# Altium schematic symbol library fpga_xilinx.SchLib: 16 symbols (part 4 of 5)
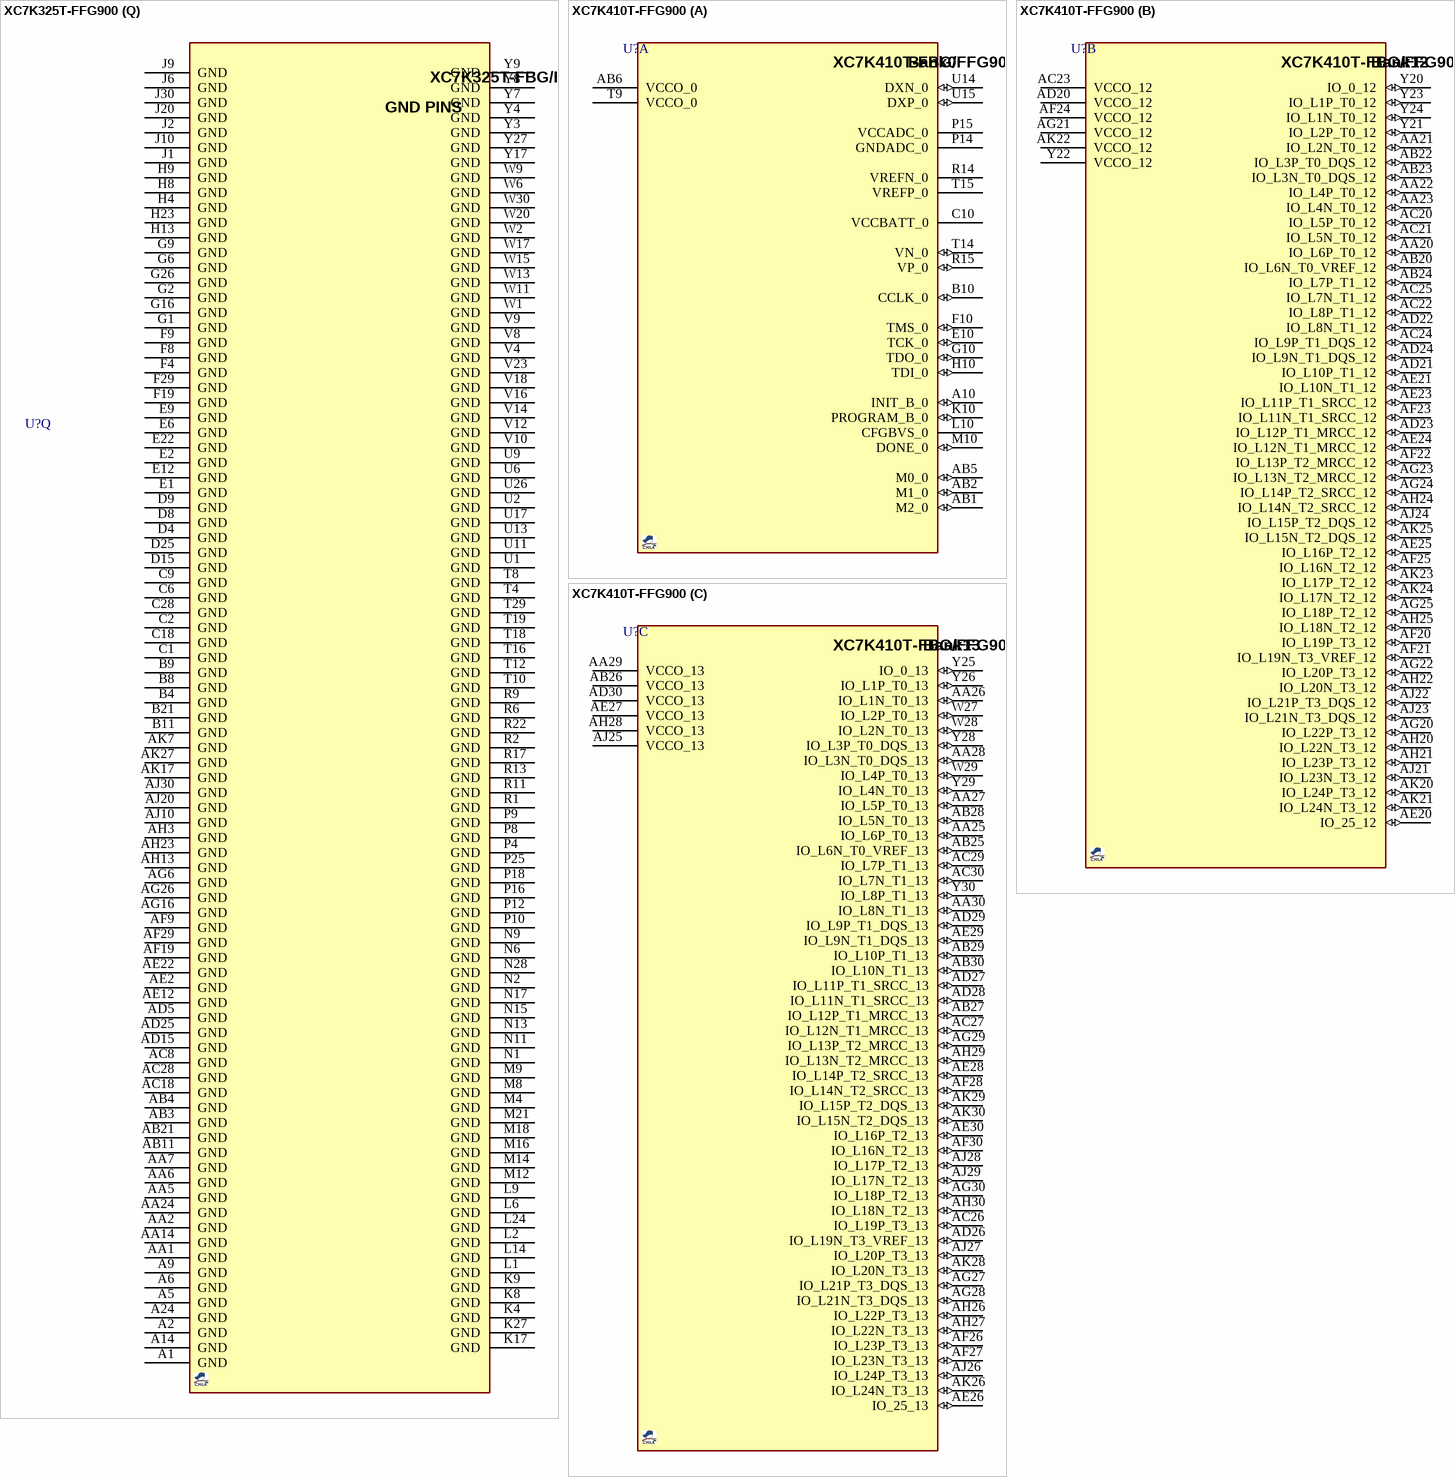
[diagram p37: symbols XC7K325T-FFG900 to XC7K410T-FFG900]

## XC7K325T-FFG900
designator U?  (value not drawn)
Xilinx FPGA 500 I/O, 325K logic cell,; DESC: -XC7K410T-2FFG900I; MANF_P#: XC7K325T-2FFG900I; ASSEMBLY: ASSEMBLY; MANF: XILINX; VALUE: XC7K325T-FFG900
footprint BGA100_900_S31 (BGA, 900-Leads, FFG900, FFG901, Body 31.0x31.0mm,  Pitch 1.00mm)
part A pins: A10 INIT_B_0 (io), AB1 M2_0 (io), AB2 M1_0 (io), AB5 M0_0 (io), AB6 VCCO_0 (power), B10 CCLK_0 (io), C10 VCCBATT_0, E10 TCK_0 (io), F10 TMS_0 (io), G10 TDO_0 (io), H10 TDI_0 (io), K10 PROGRAM_B_0 (io), L10 CFGBVS_0, M10 DONE_0 (io), P14 GNDADC_0, P15 VCCADC_0, R14 VREFN_0, R15 VP_0 (io), T9 VCCO_0 (power), T14 VN_0 (io), T15 VREFP_0, U14 DXN_0 (io), U15 DXP_0 (io)
part B pins: AA20 IO_L6P_T0_12 (io), AA21 IO_L2N_T0_12 (io), AA22 IO_L4P_T0_12 (io), AA23 IO_L4N_T0_12 (io), AB20 IO_L6N_T0_VREF_12 (io), AB22 IO_L3P_T0_DQS_12 (io), AB23 IO_L3N_T0_DQS_12 (io), AB24 IO_L7P_T1_12 (io), AC20 IO_L5P_T0_12 (io), AC21 IO_L5N_T0_12 (io), AC22 IO_L8P_T1_12 (io), AC23 VCCO_12 (power), AC24 IO_L9P_T1_DQS_12 (io), AC25 IO_L7N_T1_12 (io), AD20 VCCO_12 (power), AD21 IO_L10P_T1_12 (io), AD22 IO_L8N_T1_12 (io), AD23 IO_L12P_T1_MRCC_12 (io), AD24 IO_L9N_T1_DQS_12 (io), AE20 IO_25_12 (io), AE21 IO_L10N_T1_12 (io), AE23 IO_L11P_T1_SRCC_12 (io), AE24 IO_L12N_T1_MRCC_12 (io), AE25 IO_L16P_T2_12 (io), AF20 IO_L19P_T3_12 (io), AF21 IO_L19N_T3_VREF_12 (io), AF22 IO_L13P_T2_MRCC_12 (io), AF23 IO_L11N_T1_SRCC_12 (io), AF24 VCCO_12 (power), AF25 IO_L16N_T2_12 (io), AG20 IO_L22P_T3_12 (io), AG21 VCCO_12 (power), AG22 IO_L20P_T3_12 (io), AG23 IO_L13N_T2_MRCC_12 (io), AG24 IO_L14P_T2_SRCC_12 (io), AG25 IO_L18P_T2_12 (io), AH20 IO_L22N_T3_12 (io), AH21 IO_L23P_T3_12 (io), AH22 IO_L20N_T3_12 (io), AH24 IO_L14N_T2_SRCC_12 (io), AH25 IO_L18N_T2_12 (io), AJ21 IO_L23N_T3_12 (io), AJ22 IO_L21P_T3_DQS_12 (io), AJ23 IO_L21N_T3_DQS_12 (io), AJ24 IO_L15P_T2_DQS_12 (io), AK20 IO_L24P_T3_12 (io), AK21 IO_L24N_T3_12 (io), AK22 VCCO_12 (power), AK23 IO_L17P_T2_12 (io), AK24 IO_L17N_T2_12 (io), AK25 IO_L15N_T2_DQS_12 (io), Y20 IO_0_12 (io), Y21 IO_L2P_T0_12 (io), Y22 VCCO_12 (power), Y23 IO_L1P_T0_12 (io), Y24 IO_L1N_T0_12 (io)
part C pins: AA25 IO_L6P_T0_13 (io), AA26 IO_L1N_T0_13 (io), AA27 IO_L5P_T0_13 (io), AA28 IO_L3N_T0_DQS_13 (io), AA29 VCCO_13 (power), AA30 IO_L8N_T1_13 (io), AB25 IO_L6N_T0_VREF_13 (io), AB26 VCCO_13 (power), AB27 IO_L12P_T1_MRCC_13 (io), AB28 IO_L5N_T0_13 (io), AB29 IO_L10P_T1_13 (io), AB30 IO_L10N_T1_13 (io), AC26 IO_L19P_T3_13 (io), AC27 IO_L12N_T1_MRCC_13 (io), AC29 IO_L7P_T1_13 (io), AC30 IO_L7N_T1_13 (io), AD26 IO_L19N_T3_VREF_13 (io), AD27 IO_L11P_T1_SRCC_13 (io), AD28 IO_L11N_T1_SRCC_13 (io), AD29 IO_L9P_T1_DQS_13 (io), AD30 VCCO_13 (power), AE26 IO_25_13 (io), AE27 VCCO_13 (power), AE28 IO_L14P_T2_SRCC_13 (io), AE29 IO_L9N_T1_DQS_13 (io), AE30 IO_L16P_T2_13 (io), AF26 IO_L23P_T3_13 (io), AF27 IO_L23N_T3_13 (io), AF28 IO_L14N_T2_SRCC_13 (io), AF30 IO_L16N_T2_13 (io), AG27 IO_L21P_T3_DQS_13 (io), AG28 IO_L21N_T3_DQS_13 (io), AG29 IO_L13P_T2_MRCC_13 (io), AG30 IO_L18P_T2_13 (io), AH26 IO_L22P_T3_13 (io), AH27 IO_L22N_T3_13 (io), AH28 VCCO_13 (power), AH29 IO_L13N_T2_MRCC_13 (io), AH30 IO_L18N_T2_13 (io), AJ25 VCCO_13 (power), AJ26 IO_L24P_T3_13 (io), AJ27 IO_L20P_T3_13 (io), AJ28 IO_L17P_T2_13 (io), AJ29 IO_L17N_T2_13 (io), AK26 IO_L24N_T3_13 (io), AK28 IO_L20N_T3_13 (io), AK29 IO_L15P_T2_DQS_13 (io), AK30 IO_L15N_T2_DQS_13 (io), W27 IO_L2P_T0_13 (io), W28 IO_L2N_T0_13 (io), W29 IO_L4P_T0_13 (io), Y25 IO_0_13 (io), Y26 IO_L1P_T0_13 (io), Y28 IO_L3P_T0_DQS_13 (io), Y29 IO_L4N_T0_13 (io), Y30 IO_L8P_T1_13 (io)
part D pins: P24 IO_L1P_T0_D00_MOSI_14 (io), P26 IO_L10P_T1_D14_14 (io), P27 IO_L8P_T1_D11_14 (io), P28 IO_L8N_T1_D12_14 (io), P29 IO_L7P_T1_D09_14 (io), P30 VCCO_14 (power), R19 IO_0_14 (io), R20 IO_L2P_T0_D02_14 (io), R21 IO_L2N_T0_D03_14 (io), R23 IO_L3P_T0_DQS_PUDC_B_14 (io), R24 IO_L3N_T0_DQS_EMCCLK_14 (io), R25 IO_L1N_T0_D01_DIN_14 (io), R26 IO_L10N_T1_D15_14 (io), R27 VCCO_14 (power), R28 IO_L11P_T1_SRCC_14 (io), R29 IO_L7N_T1_D10_14 (io), R30 IO_L9P_T1_DQS_14 (io), T20 IO_L4P_T0_D04_14 (io), T21 IO_L4N_T0_D05_14 (io), T22 IO_L5P_T0_D06_14 (io), T23 IO_L5N_T0_D07_14 (io), T24 VCCO_14 (power), T25 IO_L14P_T2_SRCC_14 (io), T26 IO_L12P_T1_MRCC_14 (io), T27 IO_L12N_T1_MRCC_14 (io), T28 IO_L11N_T1_SRCC_14 (io), T30 IO_L9N_T1_DQS_D13_14 (io), U19 IO_L6P_T0_FCS_B_14 (io), U20 IO_L6N_T0_D08_VREF_14 (io), U21 VCCO_14 (power), U22 IO_L21P_T3_DQS_14 (io), U23 IO_L21N_T3_DQS_A06_D22_14 (io), U24 IO_L23P_T3_A03_D19_14 (io), U25 IO_L14N_T2_SRCC_14 (io), U27 IO_L13P_T2_MRCC_14 (io), U28 IO_L13N_T2_MRCC_14 (io), U29 IO_L15P_T2_DQS_RDWR_B_14 (io), U30 IO_L15N_T2_DQS_DOUT_CSO_B_14 (io), V19 IO_L19P_T3_A10_D26_14 (io), V20 IO_L19N_T3_A09_D25_VREF_14 (io), V21 IO_L22P_T3_A05_D21_14 (io), V22 IO_L22N_T3_A04_D20_14 (io), V24 IO_L23N_T3_A02_D18_14 (io), V25 IO_L18P_T2_A12_D28_14 (io), V26 IO_L16P_T2_CSI_B_14 (io), V27 IO_L16N_T2_A15_D31_14 (io), V28 VCCO_14 (power), V29 IO_L17P_T2_A14_D30_14 (io), V30 IO_L17N_T2_A13_D29_14 (io), W19 IO_25_14 (io), W21 IO_L24P_T3_A01_D17_14 (io), W22 IO_L24N_T3_A00_D16_14 (io), W23 IO_L20P_T3_A08_D24_14 (io), W24 IO_L20N_T3_A07_D23_14 (io), W25 VCCO_14 (power), W26 IO_L18N_T2_A11_D27_14 (io)
part E pins: H29 IO_L7N_T1_AD10N_15 (io), J21 IO_L5P_T0_AD2P_15 (io), J22 IO_L5N_T0_AD2N_15 (io), J23 IO_L1P_T0_AD0P_15 (io), J24 IO_L1N_T0_AD0N_15 (io), J25 VCCO_15 (power), J26 IO_L10N_T1_AD4N_15 (io), J27 IO_L8P_T1_AD3P_15 (io), J28 IO_L8N_T1_AD3N_15 (io), J29 IO_L7P_T1_AD10P_15 (io), K21 IO_L4N_T0_AD9N_15 (io), K22 VCCO_15 (power), K23 IO_L3P_T0_DQS_AD1P_15 (io), K24 IO_L3N_T0_DQS_AD1N_15 (io), K25 IO_L12N_T1_MRCC_AD5N_15 (io), K26 IO_L10P_T1_AD4P_15 (io), K28 IO_L13P_T2_MRCC_15 (io), K29 IO_L13N_T2_MRCC_15 (io), K30 IO_L9N_T1_DQS_AD11N_15 (io), L20 IO_L6N_T0_VREF_15 (io), L21 IO_L4P_T0_AD9P_15 (io), L22 IO_L2P_T0_AD8P_15 (io), L23 IO_L2N_T0_AD8N_15 (io), L25 IO_L12P_T1_MRCC_AD5P_15 (io), L26 IO_L11P_T1_SRCC_AD12P_15 (io), L27 IO_L11N_T1_SRCC_AD12N_15 (io), L28 IO_L14N_T2_SRCC_15 (io), L29 VCCO_15 (power), L30 IO_L9P_T1_DQS_AD11P_15 (io), M19 IO_0_15 (io), M20 IO_L6P_T0_15 (io), M22 IO_L24P_T3_RS1_15 (io), M23 IO_L24N_T3_RS0_15 (io), M24 IO_L23P_T3_FOE_B_15 (io), M25 IO_L23N_T3_FWE_B_15 (io), M26 VCCO_15 (power), M27 IO_L16N_T2_A27_15 (io), M28 IO_L14P_T2_SRCC_15 (io), M29 IO_L15P_T2_DQS_15 (io), M30 IO_L15N_T2_DQS_ADV_B_15 (io), N19 IO_L19P_T3_A22_15 (io), N20 IO_L19N_T3_A21_VREF_15 (io), N21 IO_L20P_T3_A20_15 (io), N22 IO_L20N_T3_A19_15 (io), N23 VCCO_15 (power), N24 IO_L21N_T3_DQS_A18_15 (io), N25 IO_L18P_T2_A24_15 (io), N26 IO_L18N_T2_A23_15 (io), N27 IO_L16P_T2_A28_15 (io), N29 IO_L17P_T2_A26_15 (io), N30 IO_L17N_T2_A25_15 (io), P19 IO_25_15 (io), P20 VCCO_15 (power), P21 IO_L22P_T3_A17_15 (io), P22 IO_L22N_T3_A16_15 (io), P23 IO_L21P_T3_DQS_15 (io)
part F pins: A23 IO_L1N_T0_16 (io), A25 IO_L10P_T1_16 (io), A26 IO_L10N_T1_16 (io), A27 IO_L7N_T1_16 (io), A28 IO_L9N_T1_DQS_16 (io), A29 VCCO_16 (power), A30 IO_L17N_T2_16 (io), B23 IO_L1P_T0_16 (io), B24 IO_L8N_T1_16 (io), B25 IO_L12N_T1_MRCC_16 (io), B26 VCCO_16 (power), B27 IO_L7P_T1_16 (io), B28 IO_L9P_T1_DQS_16 (io), B29 IO_L15N_T2_DQS_16 (io), B30 IO_L17P_T2_16 (io), C23 VCCO_16 (power), C24 IO_L8P_T1_16 (io), C25 IO_L12P_T1_MRCC_16 (io), C26 IO_L11N_T1_SRCC_16 (io), C27 IO_L13N_T2_MRCC_16 (io), C29 IO_L15P_T2_DQS_16 (io), C30 IO_L16N_T2_16 (io), D23 IO_L2N_T0_16 (io), D24 IO_L4N_T0_16 (io), D26 IO_L11P_T1_SRCC_16 (io), D27 IO_L13P_T2_MRCC_16 (io), D28 IO_L14N_T2_SRCC_16 (io), D29 IO_L16P_T2_16 (io), D30 VCCO_16 (power), E23 IO_L2P_T0_16 (io), E24 IO_L4P_T0_16 (io), E25 IO_L3N_T0_DQS_16 (io), E26 IO_L5N_T0_16 (io), E27 VCCO_16 (power), E28 IO_L14P_T2_SRCC_16 (io), E29 IO_L18P_T2_16 (io), E30 IO_L18N_T2_16 (io), F23 IO_0_16 (io), F24 VCCO_16 (power), F25 IO_L3P_T0_DQS_16 (io), F26 IO_L5P_T0_16 (io), F27 IO_L21N_T3_DQS_16 (io), F28 IO_L20N_T3_16 (io), F30 IO_L22N_T3_16 (io), G23 IO_L6P_T0_16 (io), G24 IO_L6N_T0_VREF_16 (io), G25 IO_25_16 (io), G27 IO_L21P_T3_DQS_16 (io), G28 IO_L20P_T3_16 (io), G29 IO_L22P_T3_16 (io), G30 IO_L24N_T3_16 (io), H24 IO_L19P_T3_16 (io), H25 IO_L19N_T3_VREF_16 (io), H26 IO_L23P_T3_16 (io), H27 IO_L23N_T3_16 (io), H28 VCCO_16 (power), H30 IO_L24P_T3_16 (io)
part G pins: A16 IO_L20P_T3_17 (io), A17 IO_L20N_T3_17 (io), A18 IO_L22N_T3_17 (io), A19 VCCO_17 (power), A20 IO_L21P_T3_DQS_17 (io), A21 IO_L21N_T3_DQS_17 (io), A22 IO_L23N_T3_17 (io), B16 VCCO_17 (power), B17 IO_L17N_T2_17 (io), B18 IO_L22P_T3_17 (io), B19 IO_L24N_T3_17 (io), B20 IO_L19N_T3_VREF_17 (io), B22 IO_L23P_T3_17 (io), C16 IO_L15N_T2_DQS_17 (io), C17 IO_L17P_T2_17 (io), C19 IO_L24P_T3_17 (io), C20 IO_L19P_T3_17 (io), C21 IO_L8N_T1_17 (io), C22 IO_L10N_T1_17 (io), D16 IO_L15P_T2_DQS_17 (io), D17 IO_L13P_T2_MRCC_17 (io), D18 IO_L13N_T2_MRCC_17 (io), D19 IO_L14N_T2_SRCC_17 (io), D20 VCCO_17 (power), D21 IO_L8P_T1_17 (io), D22 IO_L10P_T1_17 (io), E17 VCCO_17 (power), E18 IO_25_17 (io), E19 IO_L14P_T2_SRCC_17 (io), E20 IO_L12N_T1_MRCC_17 (io), E21 IO_L11N_T1_SRCC_17 (io), F17 IO_L18N_T2_17 (io), F18 IO_L16N_T2_17 (io), F20 IO_L12P_T1_MRCC_17 (io), F21 IO_L11P_T1_SRCC_17 (io), F22 IO_L9N_T1_DQS_17 (io), G17 IO_L18P_T2_17 (io), G18 IO_L16P_T2_17 (io), G19 IO_0_17 (io), G20 IO_L2N_T0_17 (io), G21 VCCO_17 (power), G22 IO_L9P_T1_DQS_17 (io), H17 IO_L3N_T0_DQS_17 (io), H18 VCCO_17 (power), H19 IO_L4N_T0_17 (io), H20 IO_L2P_T0_17 (io), H21 IO_L7P_T1_17 (io), H22 IO_L7N_T1_17 (io), J17 IO_L3P_T0_DQS_17 (io), J18 IO_L1N_T0_17 (io), J19 IO_L4P_T0_17 (io), K18 IO_L1P_T0_17 (io), K19 IO_L6P_T0_17 (io), K20 IO_L6N_T0_VREF_17 (io), L17 IO_L5P_T0_17 (io), L18 IO_L5N_T0_17 (io), L19 VCCO_17 (power)
part H pins: A11 IO_L17P_T2_18 (io), A12 IO_L17N_T2_18 (io), A13 IO_L22N_T3_18 (io), A15 IO_L24N_T3_18 (io), B12 IO_L15N_T2_DQS_18 (io), B13 IO_L22P_T3_18 (io), B14 IO_L24P_T3_18 (io), B15 IO_L23N_T3_18 (io), C11 IO_L18N_T2_18 (io), C12 IO_L15P_T2_DQS_18 (io), C13 VCCO_18 (power), C14 IO_L21N_T3_DQS_18 (io), C15 IO_L23P_T3_18 (io), D10 VCCO_18 (power), D11 IO_L18P_T2_18 (io), D12 IO_L13P_T2_MRCC_18 (io), D13 IO_L13N_T2_MRCC_18 (io), D14 IO_L21P_T3_DQS_18 (io), E11 IO_L16N_T2_18 (io), E13 IO_L14N_T2_SRCC_18 (io), E14 IO_L20P_T3_18 (io), E15 IO_L20N_T3_18 (io), E16 IO_L19N_T3_VREF_18 (io), F11 IO_L16P_T2_18 (io), F12 IO_L14P_T2_SRCC_18 (io), F13 IO_L12N_T1_MRCC_18 (io), F14 VCCO_18 (power), F15 IO_L19P_T3_18 (io), F16 IO_25_18 (io), G11 VCCO_18 (power), G12 IO_0_18 (io), G13 IO_L12P_T1_MRCC_18 (io), G14 IO_L11N_T1_SRCC_18 (io), G15 IO_L7N_T1_18 (io), H11 IO_L10P_T1_18 (io), H12 IO_L10N_T1_18 (io), H14 IO_L11P_T1_SRCC_18 (io), H15 IO_L7P_T1_18 (io), H16 IO_L9N_T1_DQS_18 (io), J11 IO_L8P_T1_18 (io), J12 IO_L8N_T1_18 (io), J13 IO_L4N_T0_18 (io), J14 IO_L5N_T0_18 (io), J15 VCCO_18 (power), J16 IO_L9P_T1_DQS_18 (io), K11 IO_L6N_T0_VREF_18 (io), K12 VCCO_18 (power), K13 IO_L4P_T0_18 (io), K14 IO_L5P_T0_18 (io), K15 IO_L2N_T0_18 (io), K16 IO_L1N_T0_18 (io), L11 IO_L6P_T0_18 (io), L12 IO_L3P_T0_DQS_18 (io), L13 IO_L3N_T0_DQS_18 (io), L15 IO_L2P_T0_18 (io), L16 IO_L1P_T0_18 (io)
part I pins: AA15 IO_L20P_T3_32 (io), AA16 IO_L23N_T3_32 (io), AA17 IO_L23P_T3_32 (io), AA18 IO_L16P_T2_32 (io), AA19 VCCO_32 (power), AB14 IO_25_VRP_32 (io), AB15 IO_L20N_T3_32 (io), AB16 VCCO_32 (power), AB17 IO_L18P_T2_32 (io), AB18 IO_L16N_T2_32 (io), AB19 IO_L17P_T2_32 (io), AC14 IO_L22P_T3_32 (io), AC15 IO_L21N_T3_DQS_32 (io), AC16 IO_L21P_T3_DQS_32 (io), AC17 IO_L18N_T2_32 (io), AC19 IO_L17N_T2_32 (io), AD14 IO_L22N_T3_32 (io), AD16 IO_L14N_T2_SRCC_32 (io), AD17 IO_L14P_T2_SRCC_32 (io), AD18 IO_L13P_T2_MRCC_32 (io), AD19 IO_L10P_T1_32 (io), AE14 IO_L19N_T3_VREF_32 (io), AE15 IO_L19P_T3_32 (io), AE16 IO_L6P_T0_32 (io), AE17 VCCO_32 (power), AE18 IO_L13N_T2_MRCC_32 (io), AE19 IO_L10N_T1_32 (io), AF14 VCCO_32 (power), AF15 IO_L4P_T0_32 (io), AF16 IO_L6N_T0_VREF_32 (io), AF17 IO_L12P_T1_MRCC_32 (io), AF18 IO_L11P_T1_SRCC_32 (io), AG14 IO_L4N_T0_32 (io), AG15 IO_L2P_T0_32 (io), AG17 IO_L12N_T1_MRCC_32 (io), AG18 IO_L11N_T1_SRCC_32 (io), AG19 IO_L8P_T1_32 (io), AH15 IO_L2N_T0_32 (io), AH16 IO_L3P_T0_DQS_32 (io), AH17 IO_L5P_T0_32 (io), AH18 VCCO_32 (power), AH19 IO_L8N_T1_32 (io), AJ15 VCCO_32 (power), AJ16 IO_L3N_T0_DQS_32 (io), AJ17 IO_L5N_T0_32 (io), AJ18 IO_L9P_T1_DQS_32 (io), AJ19 IO_L7P_T1_32 (io), AK15 IO_L1N_T0_32 (io), AK16 IO_L1P_T0_32 (io), AK18 IO_L9N_T1_DQS_32 (io), AK19 IO_L7N_T1_32 (io), Y14 IO_0_VRN_32 (io), Y15 IO_L24N_T3_32 (io), Y16 IO_L24P_T3_32 (io), Y18 IO_L15N_T2_DQS_32 (io), Y19 IO_L15P_T2_DQS_32 (io)
part J pins: AA8 IO_L2P_T0_33 (io), AA9 VCCO_33 (power), AA10 IO_L5N_T0_33 (io), AA11 IO_L5P_T0_33 (io), AA12 IO_L1P_T0_33 (io), AA13 IO_L6P_T0_33 (io), AB8 IO_L2N_T0_33 (io), AB9 IO_L3P_T0_DQS_33 (io), AB10 IO_L7P_T1_33 (io), AB12 IO_L1N_T0_33 (io), AB13 IO_L6N_T0_VREF_33 (io), AC9 IO_L3N_T0_DQS_33 (io), AC10 IO_L7N_T1_33 (io), AC11 IO_L9N_T1_DQS_33 (io), AC12 IO_L9P_T1_DQS_33 (io), AC13 VCCO_33 (power), AD8 IO_L8P_T1_33 (io), AD9 IO_L10P_T1_33 (io), AD10 VCCO_33 (power), AD11 IO_L12N_T1_MRCC_33 (io), AD12 IO_L12P_T1_MRCC_33 (io), AD13 IO_25_VRP_33 (io), AE8 IO_L8N_T1_33 (io), AE9 IO_L10N_T1_33 (io), AE10 IO_L14P_T2_SRCC_33 (io), AE11 IO_L11P_T1_SRCC_33 (io), AE13 IO_L19P_T3_33 (io), AF10 IO_L14N_T2_SRCC_33 (io), AF11 IO_L11N_T1_SRCC_33 (io), AF12 IO_L23P_T3_33 (io), AF13 IO_L19N_T3_VREF_33 (io), AG9 IO_L16P_T2_33 (io), AG10 IO_L13P_T2_MRCC_33 (io), AG11 VCCO_33 (power), AG12 IO_L23N_T3_33 (io), AG13 IO_L24P_T3_33 (io), AH9 IO_L16N_T2_33 (io), AH10 IO_L13N_T2_MRCC_33 (io), AH11 IO_L18P_T2_33 (io), AH12 IO_L24N_T3_33 (io), AH14 IO_L21P_T3_DQS_33 (io), AJ9 IO_L15P_T2_DQS_33 (io), AJ11 IO_L18N_T2_33 (io), AJ12 IO_L22N_T3_33 (io), AJ13 IO_L22P_T3_33 (io), AJ14 IO_L21N_T3_DQS_33 (io), AK9 IO_L15N_T2_DQS_33 (io), AK10 IO_L17N_T2_33 (io), AK11 IO_L17P_T2_33 (io), AK12 VCCO_33 (power), AK13 IO_L20N_T3_33 (io), AK14 IO_L20P_T3_33 (io), Y10 IO_L4N_T0_33 (io), Y11 IO_L4P_T0_33 (io), Y12 VCCO_33 (power), Y13 IO_0_VRN_33 (io)
part K pins: AB7 IO_25_VRP_34 (io), AC1 IO_L2N_T0_34 (io), AC2 IO_L2P_T0_34 (io), AC3 VCCO_34 (power), AC4 IO_L4N_T0_34 (io), AC5 IO_L4P_T0_34 (io), AC6 IO_0_VRN_34 (io), AC7 IO_L6P_T0_34 (io), AD1 IO_L3N_T0_DQS_34 (io), AD2 IO_L3P_T0_DQS_34 (io), AD3 IO_L1N_T0_34 (io), AD4 IO_L1P_T0_34 (io), AD6 IO_L5P_T0_34 (io), AD7 IO_L6N_T0_VREF_34 (io), AE1 IO_L8P_T1_34 (io), AE3 IO_L10N_T1_34 (io), AE4 IO_L10P_T1_34 (io), AE5 IO_L11P_T1_SRCC_34 (io), AE6 IO_L5N_T0_34 (io), AE7 VCCO_34 (power), AF1 IO_L8N_T1_34 (io), AF2 IO_L7N_T1_34 (io), AF3 IO_L7P_T1_34 (io), AF4 VCCO_34 (power), AF5 IO_L11N_T1_SRCC_34 (io), AF6 IO_L12P_T1_MRCC_34 (io), AF7 IO_L20P_T3_34 (io), AF8 IO_L19P_T3_34 (io), AG1 VCCO_34 (power), AG2 IO_L15P_T2_DQS_34 (io), AG3 IO_L9N_T1_DQS_34 (io), AG4 IO_L9P_T1_DQS_34 (io), AG5 IO_L12N_T1_MRCC_34 (io), AG7 IO_L20N_T3_34 (io), AG8 IO_L19N_T3_VREF_34 (io), AH1 IO_L15N_T2_DQS_34 (io), AH2 IO_L16P_T2_34 (io), AH4 IO_L13P_T2_MRCC_34 (io), AH5 IO_L14N_T2_SRCC_34 (io), AH6 IO_L14P_T2_SRCC_34 (io), AH7 IO_L21P_T3_DQS_34 (io), AH8 VCCO_34 (power), AJ1 IO_L17P_T2_34 (io), AJ2 IO_L16N_T2_34 (io), AJ3 IO_L18P_T2_34 (io), AJ4 IO_L13N_T2_MRCC_34 (io), AJ5 VCCO_34 (power), AJ6 IO_L22P_T3_34 (io), AJ7 IO_L21N_T3_DQS_34 (io), AJ8 IO_L23P_T3_34 (io), AK1 IO_L17N_T2_34 (io), AK2 VCCO_34 (power), AK3 IO_L18N_T2_34 (io), AK4 IO_L24N_T3_34 (io), AK5 IO_L24P_T3_34 (io), AK6 IO_L22N_T3_34 (io), AK8 IO_L23N_T3_34 (io)
part L pins: AA3 MGTXRXN0_115 (io), AA4 MGTXRXP0_115 (io), R7 MGTREFCLK0N_115 (io), R8 MGTREFCLK0P_115 (io), T1 MGTXTXN3_115 (io), T2 MGTXTXP3_115 (io), U3 MGTXTXN2_115 (io), U4 MGTXTXP2_115 (io), U7 MGTREFCLK1N_115 (io), U8 MGTREFCLK1P_115 (io), V1 MGTXTXN1_115 (io), V2 MGTXTXP1_115 (io), V5 MGTXRXN3_115 (io), V6 MGTXRXP3_115 (io), W3 MGTXRXN2_115 (io), W4 MGTXRXP2_115 (io), W7 MGTAVTTRCAL_115, W8 MGTRREF_115, Y1 MGTXTXN0_115 (io), Y2 MGTXTXP0_115 (io), Y5 MGTXRXN1_115 (io), Y6 MGTXRXP1_115 (io)
part M pins: L3 MGTXTXN3_116 (io), L4 MGTXTXP3_116 (io), L7 MGTREFCLK0N_116 (io), L8 MGTREFCLK0P_116 (io), M1 MGTXTXN2_116 (io), M2 MGTXTXP2_116 (io), M5 MGTXRXN3_116 (io), M6 MGTXRXP3_116 (io), N3 MGTXTXN1_116 (io), N4 MGTXTXP1_116 (io), N7 MGTREFCLK1N_116 (io), N8 MGTREFCLK1P_116 (io), P1 MGTXTXN0_116 (io), P2 MGTXTXP0_116 (io), P5 MGTXRXN2_116 (io), P6 MGTXRXP2_116 (io), R3 MGTXRXN1_116 (io), R4 MGTXRXP1_116 (io), T5 MGTXRXN0_116 (io), T6 MGTXRXP0_116 (io)
part N pins: F1 MGTXTXN3_117 (io), F2 MGTXTXP3_117 (io), F5 MGTXRXN3_117 (io), F6 MGTXRXP3_117 (io), G3 MGTXRXN2_117 (io), G4 MGTXRXP2_117 (io), G7 MGTREFCLK0N_117 (io), G8 MGTREFCLK0P_117 (io), H1 MGTXTXN2_117 (io), H2 MGTXTXP2_117 (io), H5 MGTXRXN1_117 (io), H6 MGTXRXP1_117 (io), J3 MGTXTXN1_117 (io), J4 MGTXTXP1_117 (io), J7 MGTREFCLK1N_117 (io), J8 MGTREFCLK1P_117 (io), K1 MGTXTXN0_117 (io), K2 MGTXTXP0_117 (io), K5 MGTXRXN0_117 (io), K6 MGTXRXP0_117 (io)
part O pins: A3 MGTXTXN3_118 (io), A4 MGTXTXP3_118 (io), A7 MGTXRXN3_118 (io), A8 MGTXRXP3_118 (io), B1 MGTXTXN2_118 (io), B2 MGTXTXP2_118 (io), B5 MGTXRXN2_118 (io), B6 MGTXRXP2_118 (io), C3 MGTXTXN1_118 (io), C4 MGTXTXP1_118 (io), C7 MGTREFCLK0N_118 (io), C8 MGTREFCLK0P_118 (io), D1 MGTXTXN0_118 (io), D2 MGTXTXP0_118 (io), D5 MGTXRXN1_118 (io), D6 MGTXRXP1_118 (io), E3 MGTXRXN0_118 (io), E4 MGTXRXP0_118 (io), E7 MGTREFCLK1N_118 (io), E8 MGTREFCLK1P_118 (io)
part P pins: B3 MGTAVTT_B3, B7 MGTAVCC_B7, C5 MGTAVTT_C5, D3 MGTAVTT_D3, D7 MGTAVCC_D7, E5 MGTAVTT_E5, F3 MGTAVTT_F3, F7 MGTAVCC_F7, G5 MGTAVTT_G5, H3 MGTAVTT_H3, H7 MGTAVCC_H7, J5 MGTAVTT_J5, K3 MGTAVTT_K3, K7 MGTAVCC_K7, L5 MGTAVTT_L5, M3 MGTAVTT_M3, M7 MGTAVCC_M7, M11 VCCINT_M11, M13 VCCINT_M13, M15 VCCINT_M15, M17 VCCINT_M17, N5 MGTAVTT_N5, N10 VCCINT_N10, N12 VCCINT_N12, N14 VCCINT_N14, N16 VCCBRAM_N16, N18 VCCINT_N18, P3 MGTAVTT_P3, P7 MGTAVCC_P7, P11 VCCINT_P11, P13 VCCAUX_P13, P17 VCCINT_P17, R5 MGTAVTT_R5, R10 VCCINT_R10, R12 VCCINT_R12, R16 VCCBRAM_R16, R18 VCCINT_R18, T3 MGTAVTT_T3, T7 MGTVCCAUX_T7, T11 VCCINT_T11, T13 VCCAUX_T13, T17 VCCINT_T17, U5 MGTAVTT_U5, U10 VCCINT_U10, U12 VCCINT_U12, U16 VCCBRAM_U16, U18 VCCINT_U18, V3 MGTAVTT_V3, V7 MGTVCCAUX_V7, V11 VCCAUX_IO_G0_V11, V13 VCCAUX_V13, V15 VCCAUX_V15, V17 VCCINT_V17, W5 MGTAVTT_W5, W10 VCCAUX_IO_G0_W10, W12 VCCAUX_IO_G0_W12, W14 VCCAUX_W14, W16 VCCBRAM_W16, W18 VCCINT_W18
part Q pins: A1 GND, A2 GND, A5 GND, A6 GND, A9 GND, A14 GND, A24 GND, AA1 GND, AA2 GND, AA5 GND, AA6 GND, AA7 GND, AA14 GND, AA24 GND, AB3 GND, AB4 GND, AB11 GND, AB21 GND, AC8 GND, AC18 GND, AC28 GND, AD5 GND, AD15 GND, AD25 GND, AE2 GND, AE12 GND, AE22 GND, AF9 GND, AF19 GND, AF29 GND, AG6 GND, AG16 GND, AG26 GND, AH3 GND, AH13 GND, AH23 GND, AJ10 GND, AJ20 GND, AJ30 GND, AK7 GND, AK17 GND, AK27 GND, B4 GND, B8 GND, B9 GND, B11 GND, B21 GND, C1 GND, C2 GND, C6 GND, C9 GND, C18 GND, C28 GND, D4 GND, D8 GND, D9 GND, D15 GND, D25 GND, E1 GND, E2 GND, E6 GND, E9 GND, E12 GND, E22 GND, F4 GND, F8 GND, F9 GND, F19 GND, F29 GND, G1 GND, G2 GND, G6 GND, G9 GND, G16 GND, G26 GND, H4 GND, H8 GND, H9 GND, H13 GND, H23 GND, J1 GND, J2 GND, J6 GND, J9 GND, J10 GND, J20 GND, J30 GND, K4 GND, K8 GND, K9 GND, K17 GND, K27 GND, L1 GND, L2 GND, L6 GND, L9 GND, L14 GND, L24 GND, M4 GND, M8 GND, M9 GND, M12 GND, M14 GND, M16 GND, M18 GND, M21 GND, N1 GND, N2 GND, N6 GND, N9 GND, N11 GND, N13 GND, N15 GND, N17 GND, N28 GND, P4 GND, P8 GND, P9 GND, P10 GND, P12 GND, P16 GND, P18 GND, P25 GND, R1 GND, R2 GND, R6 GND, R9 GND, R11 GND, R13 GND, R17 GND, R22 GND, T4 GND, T8 GND, T10 GND, T12 GND, T16 GND, T18 GND, T19 GND, T29 GND, U1 GND, U2 GND, U6 GND, U9 GND, U11 GND, U13 GND, U17 GND, U26 GND, V4 GND, V8 GND, V9 GND, V10 GND, V12 GND, V14 GND, V16 GND, V18 GND, V23 GND, W1 GND, W2 GND, W6 GND, W9 GND, W11 GND, W13 GND, W15 GND, W17 GND, W20 GND, W30 GND, Y3 GND, Y4 GND, Y7 GND, Y8 GND, Y9 GND, Y17 GND, Y27 GND
part A text: XC7K325T-FBG/FFG900; Bank0
part B text: XC7K325T-FBG/FFG900; Bank12
part C text: XC7K325T-FBG/FFG900; Bank13
part D text: XC7K325T-FBG/FFG900; Bank14
part E text: XC7K325T-FBG/FFG900; Bank15
part F text: XC7K325T-FBG/FFG900; Bank16
part G text: XC7K325T-FBG/FFG900; Bank17
part H text: XC7K325T-FBG/FFG900; Bank18
part I text: XC7K325T-FBG/FFG900; Bank32; HP
part J text: XC7K325T_NFBG/FFG900; Bank33; HP
part K text: XC7K325T-FBG/FFG900; Bank34; HP
part L text: XC7K325T-FBG/FFG900; Bank115
part M text: XC7K325T-FBG/FFG900; Bank116
part N text: XC7K325T-FBG/FFG900; Bank117
part O text: XC7K325T-FBG/FFG900; Bank118
part P text: XC7K325T-FBG/FFG900; PWR
part Q text: XC7K325T-FBG/FFG900; GND PINS

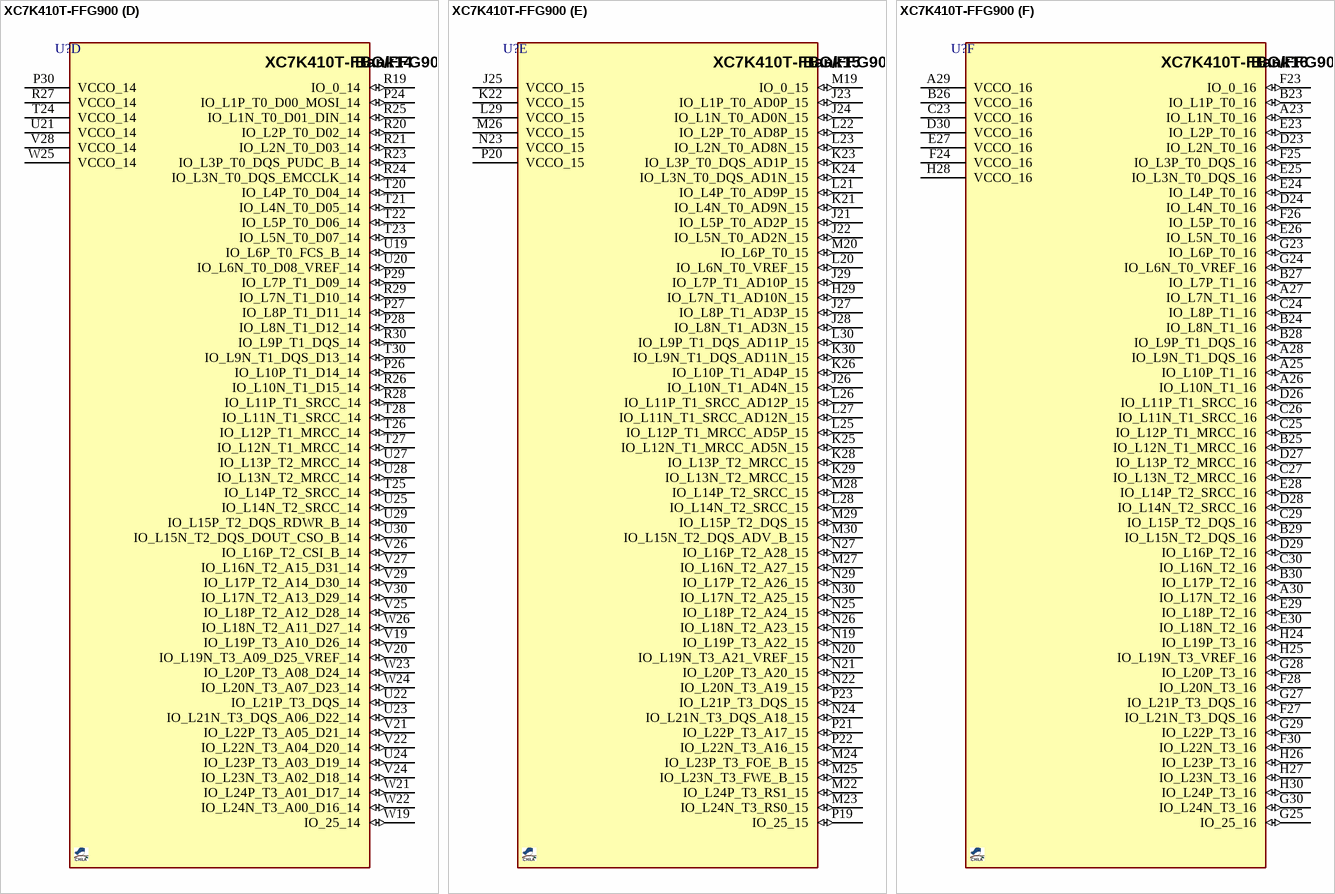
[diagram p27: symbol XC7K410T-FFG900]

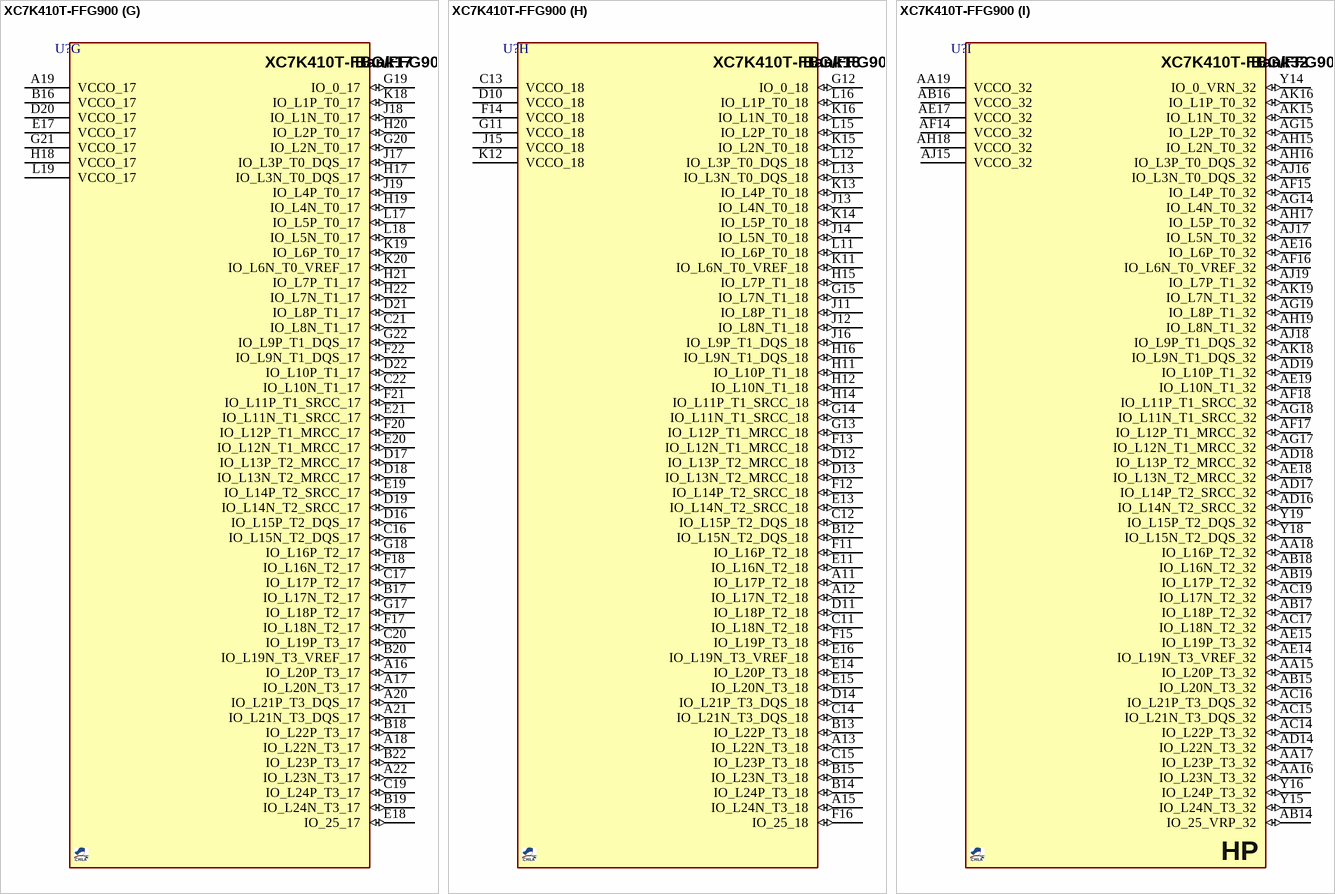
[diagram p28: symbol XC7K410T-FFG900]

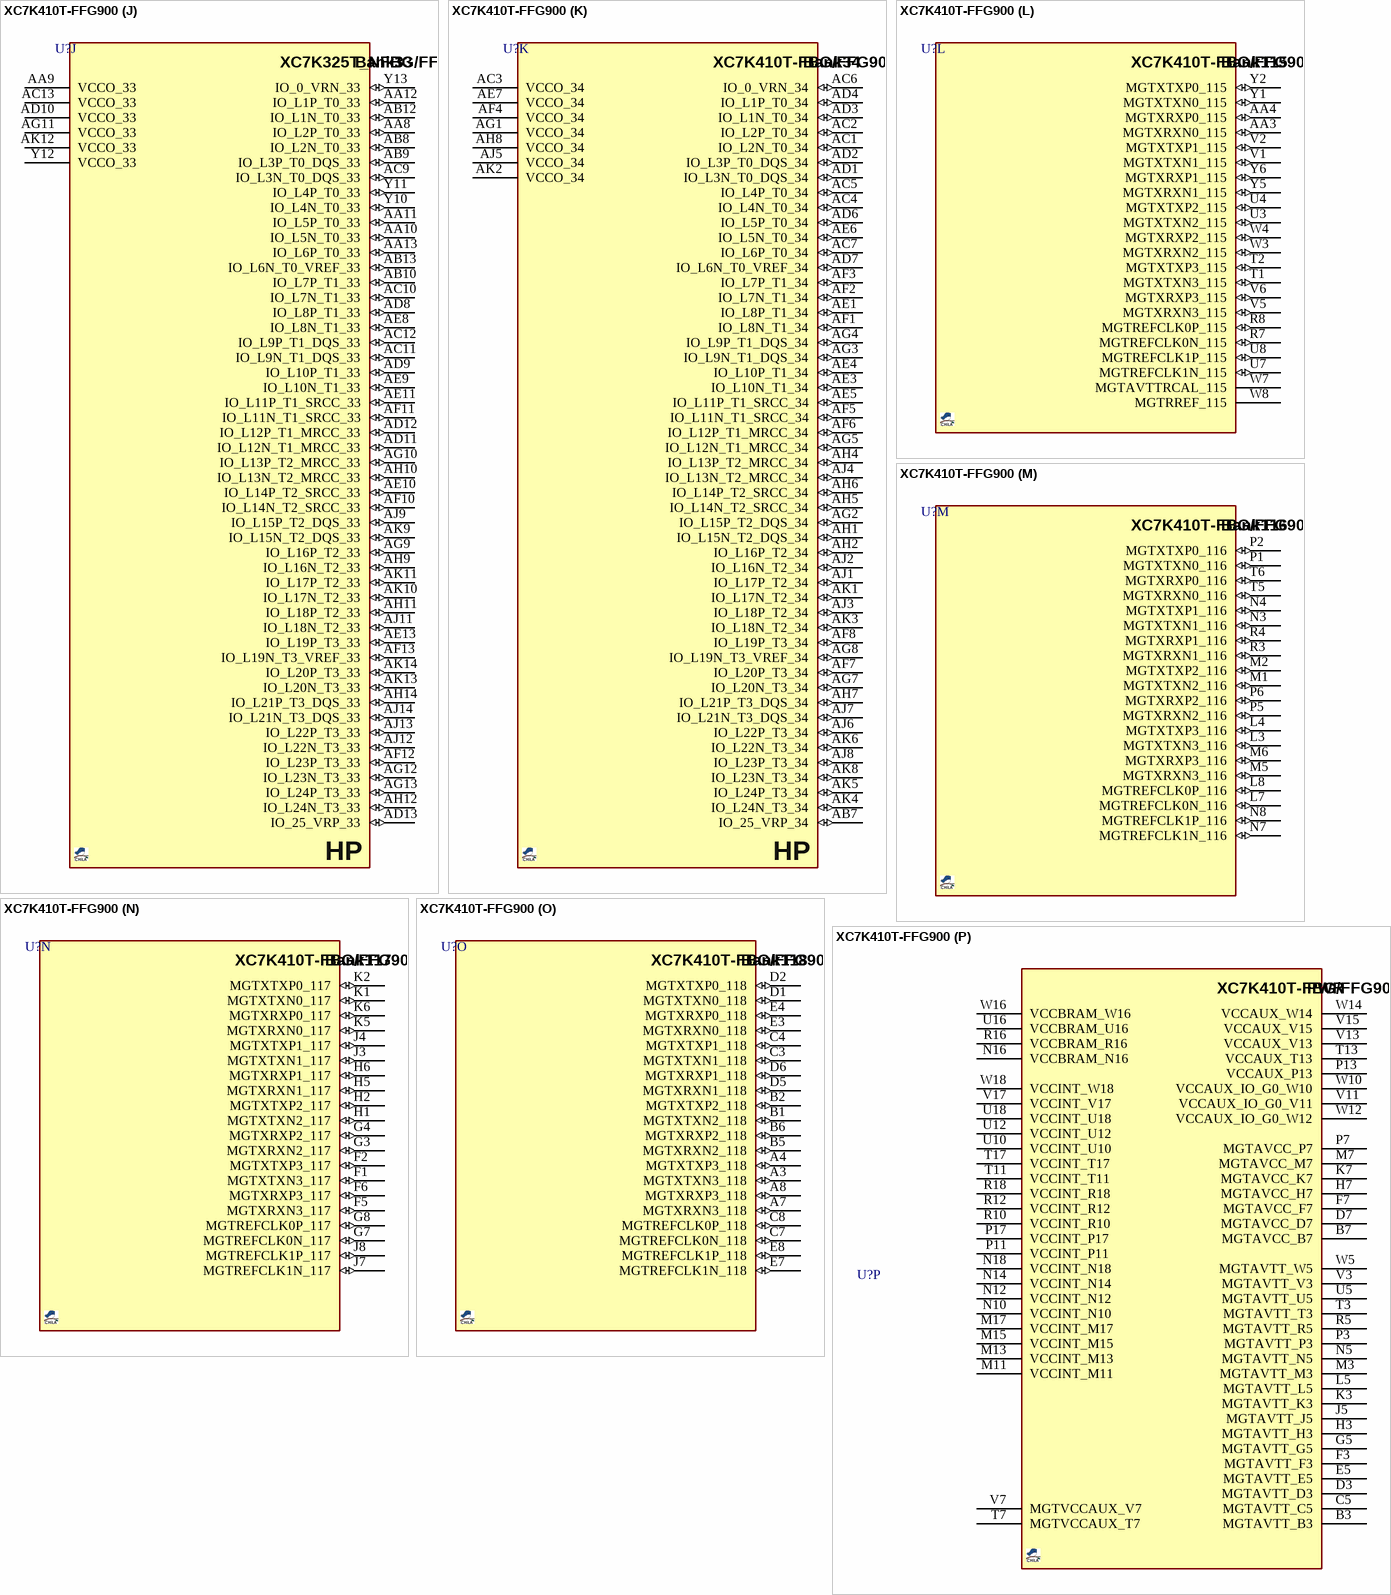
[diagram p29: symbol XC7K410T-FFG900]

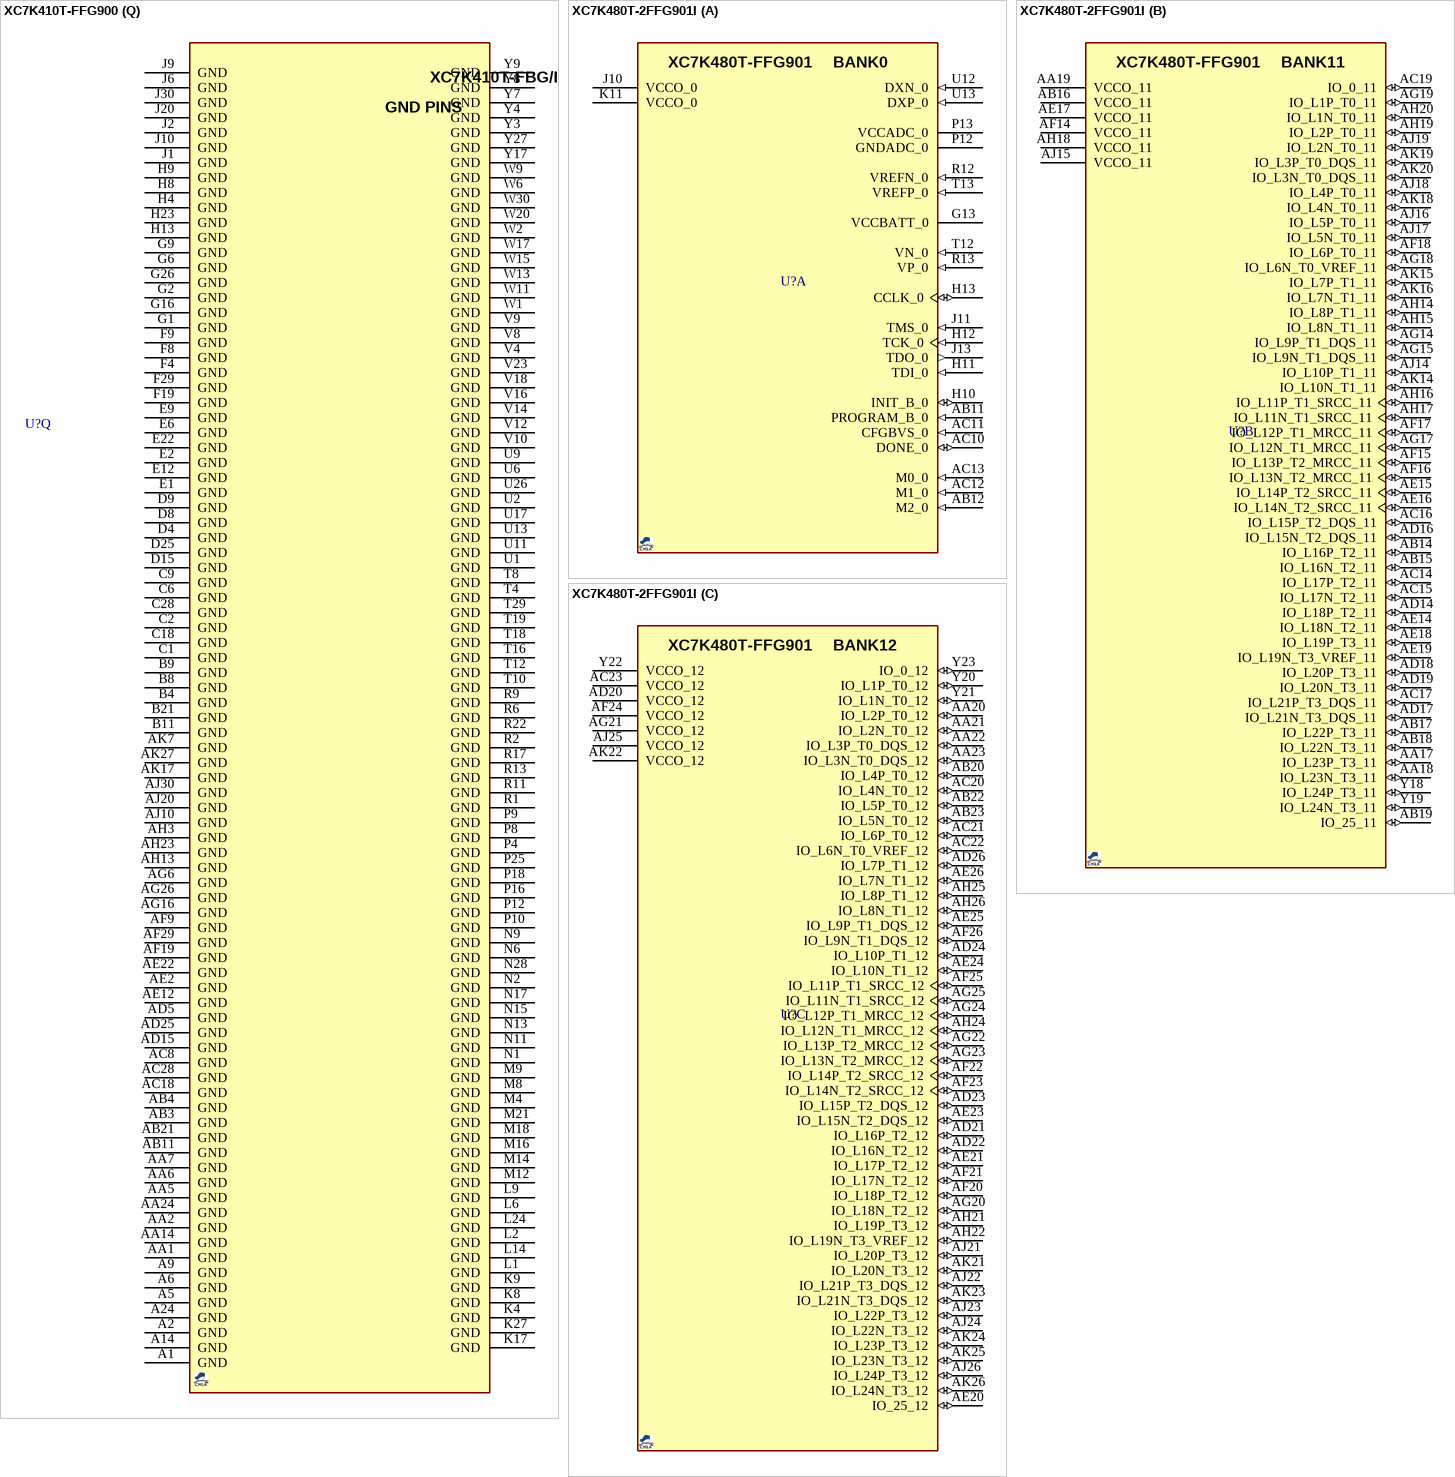
[diagram p30: symbols XC7K410T-FFG900 to XC7K480T-2FFG901I]

## XC7K410T-FFG900
designator U?  (value not drawn)
Xilinx FPGA 500 I/O, 410K logic cell,; DESC: -XC7K325T-2FFG900I; MANF_P#: XC7K410T-2FFG900I; ASSEMBLY: ASSEMBLY; MANF: XILINX; VALUE: XC7K410T-FFG900
footprint BGA100_900_S31 (BGA, 900-Leads, FFG900, FFG901, Body 31.0x31.0mm,  Pitch 1.00mm)
part A pins: A10 INIT_B_0 (io), AB1 M2_0 (io), AB2 M1_0 (io), AB5 M0_0 (io), AB6 VCCO_0 (power), B10 CCLK_0 (io), C10 VCCBATT_0, E10 TCK_0 (io), F10 TMS_0 (io), G10 TDO_0 (io), H10 TDI_0 (io), K10 PROGRAM_B_0 (io), L10 CFGBVS_0, M10 DONE_0 (io), P14 GNDADC_0, P15 VCCADC_0, R14 VREFN_0, R15 VP_0 (io), T9 VCCO_0 (power), T14 VN_0 (io), T15 VREFP_0, U14 DXN_0 (io), U15 DXP_0 (io)
part B pins: AA20 IO_L6P_T0_12 (io), AA21 IO_L2N_T0_12 (io), AA22 IO_L4P_T0_12 (io), AA23 IO_L4N_T0_12 (io), AB20 IO_L6N_T0_VREF_12 (io), AB22 IO_L3P_T0_DQS_12 (io), AB23 IO_L3N_T0_DQS_12 (io), AB24 IO_L7P_T1_12 (io), AC20 IO_L5P_T0_12 (io), AC21 IO_L5N_T0_12 (io), AC22 IO_L8P_T1_12 (io), AC23 VCCO_12 (power), AC24 IO_L9P_T1_DQS_12 (io), AC25 IO_L7N_T1_12 (io), AD20 VCCO_12 (power), AD21 IO_L10P_T1_12 (io), AD22 IO_L8N_T1_12 (io), AD23 IO_L12P_T1_MRCC_12 (io), AD24 IO_L9N_T1_DQS_12 (io), AE20 IO_25_12 (io), AE21 IO_L10N_T1_12 (io), AE23 IO_L11P_T1_SRCC_12 (io), AE24 IO_L12N_T1_MRCC_12 (io), AE25 IO_L16P_T2_12 (io), AF20 IO_L19P_T3_12 (io), AF21 IO_L19N_T3_VREF_12 (io), AF22 IO_L13P_T2_MRCC_12 (io), AF23 IO_L11N_T1_SRCC_12 (io), AF24 VCCO_12 (power), AF25 IO_L16N_T2_12 (io), AG20 IO_L22P_T3_12 (io), AG21 VCCO_12 (power), AG22 IO_L20P_T3_12 (io), AG23 IO_L13N_T2_MRCC_12 (io), AG24 IO_L14P_T2_SRCC_12 (io), AG25 IO_L18P_T2_12 (io), AH20 IO_L22N_T3_12 (io), AH21 IO_L23P_T3_12 (io), AH22 IO_L20N_T3_12 (io), AH24 IO_L14N_T2_SRCC_12 (io), AH25 IO_L18N_T2_12 (io), AJ21 IO_L23N_T3_12 (io), AJ22 IO_L21P_T3_DQS_12 (io), AJ23 IO_L21N_T3_DQS_12 (io), AJ24 IO_L15P_T2_DQS_12 (io), AK20 IO_L24P_T3_12 (io), AK21 IO_L24N_T3_12 (io), AK22 VCCO_12 (power), AK23 IO_L17P_T2_12 (io), AK24 IO_L17N_T2_12 (io), AK25 IO_L15N_T2_DQS_12 (io), Y20 IO_0_12 (io), Y21 IO_L2P_T0_12 (io), Y22 VCCO_12 (power), Y23 IO_L1P_T0_12 (io), Y24 IO_L1N_T0_12 (io)
part C pins: AA25 IO_L6P_T0_13 (io), AA26 IO_L1N_T0_13 (io), AA27 IO_L5P_T0_13 (io), AA28 IO_L3N_T0_DQS_13 (io), AA29 VCCO_13 (power), AA30 IO_L8N_T1_13 (io), AB25 IO_L6N_T0_VREF_13 (io), AB26 VCCO_13 (power), AB27 IO_L12P_T1_MRCC_13 (io), AB28 IO_L5N_T0_13 (io), AB29 IO_L10P_T1_13 (io), AB30 IO_L10N_T1_13 (io), AC26 IO_L19P_T3_13 (io), AC27 IO_L12N_T1_MRCC_13 (io), AC29 IO_L7P_T1_13 (io), AC30 IO_L7N_T1_13 (io), AD26 IO_L19N_T3_VREF_13 (io), AD27 IO_L11P_T1_SRCC_13 (io), AD28 IO_L11N_T1_SRCC_13 (io), AD29 IO_L9P_T1_DQS_13 (io), AD30 VCCO_13 (power), AE26 IO_25_13 (io), AE27 VCCO_13 (power), AE28 IO_L14P_T2_SRCC_13 (io), AE29 IO_L9N_T1_DQS_13 (io), AE30 IO_L16P_T2_13 (io), AF26 IO_L23P_T3_13 (io), AF27 IO_L23N_T3_13 (io), AF28 IO_L14N_T2_SRCC_13 (io), AF30 IO_L16N_T2_13 (io), AG27 IO_L21P_T3_DQS_13 (io), AG28 IO_L21N_T3_DQS_13 (io), AG29 IO_L13P_T2_MRCC_13 (io), AG30 IO_L18P_T2_13 (io), AH26 IO_L22P_T3_13 (io), AH27 IO_L22N_T3_13 (io), AH28 VCCO_13 (power), AH29 IO_L13N_T2_MRCC_13 (io), AH30 IO_L18N_T2_13 (io), AJ25 VCCO_13 (power), AJ26 IO_L24P_T3_13 (io), AJ27 IO_L20P_T3_13 (io), AJ28 IO_L17P_T2_13 (io), AJ29 IO_L17N_T2_13 (io), AK26 IO_L24N_T3_13 (io), AK28 IO_L20N_T3_13 (io), AK29 IO_L15P_T2_DQS_13 (io), AK30 IO_L15N_T2_DQS_13 (io), W27 IO_L2P_T0_13 (io), W28 IO_L2N_T0_13 (io), W29 IO_L4P_T0_13 (io), Y25 IO_0_13 (io), Y26 IO_L1P_T0_13 (io), Y28 IO_L3P_T0_DQS_13 (io), Y29 IO_L4N_T0_13 (io), Y30 IO_L8P_T1_13 (io)
part D pins: P24 IO_L1P_T0_D00_MOSI_14 (io), P26 IO_L10P_T1_D14_14 (io), P27 IO_L8P_T1_D11_14 (io), P28 IO_L8N_T1_D12_14 (io), P29 IO_L7P_T1_D09_14 (io), P30 VCCO_14 (power), R19 IO_0_14 (io), R20 IO_L2P_T0_D02_14 (io), R21 IO_L2N_T0_D03_14 (io), R23 IO_L3P_T0_DQS_PUDC_B_14 (io), R24 IO_L3N_T0_DQS_EMCCLK_14 (io), R25 IO_L1N_T0_D01_DIN_14 (io), R26 IO_L10N_T1_D15_14 (io), R27 VCCO_14 (power), R28 IO_L11P_T1_SRCC_14 (io), R29 IO_L7N_T1_D10_14 (io), R30 IO_L9P_T1_DQS_14 (io), T20 IO_L4P_T0_D04_14 (io), T21 IO_L4N_T0_D05_14 (io), T22 IO_L5P_T0_D06_14 (io), T23 IO_L5N_T0_D07_14 (io), T24 VCCO_14 (power), T25 IO_L14P_T2_SRCC_14 (io), T26 IO_L12P_T1_MRCC_14 (io), T27 IO_L12N_T1_MRCC_14 (io), T28 IO_L11N_T1_SRCC_14 (io), T30 IO_L9N_T1_DQS_D13_14 (io), U19 IO_L6P_T0_FCS_B_14 (io), U20 IO_L6N_T0_D08_VREF_14 (io), U21 VCCO_14 (power), U22 IO_L21P_T3_DQS_14 (io), U23 IO_L21N_T3_DQS_A06_D22_14 (io), U24 IO_L23P_T3_A03_D19_14 (io), U25 IO_L14N_T2_SRCC_14 (io), U27 IO_L13P_T2_MRCC_14 (io), U28 IO_L13N_T2_MRCC_14 (io), U29 IO_L15P_T2_DQS_RDWR_B_14 (io), U30 IO_L15N_T2_DQS_DOUT_CSO_B_14 (io), V19 IO_L19P_T3_A10_D26_14 (io), V20 IO_L19N_T3_A09_D25_VREF_14 (io), V21 IO_L22P_T3_A05_D21_14 (io), V22 IO_L22N_T3_A04_D20_14 (io), V24 IO_L23N_T3_A02_D18_14 (io), V25 IO_L18P_T2_A12_D28_14 (io), V26 IO_L16P_T2_CSI_B_14 (io), V27 IO_L16N_T2_A15_D31_14 (io), V28 VCCO_14 (power), V29 IO_L17P_T2_A14_D30_14 (io), V30 IO_L17N_T2_A13_D29_14 (io), W19 IO_25_14 (io), W21 IO_L24P_T3_A01_D17_14 (io), W22 IO_L24N_T3_A00_D16_14 (io), W23 IO_L20P_T3_A08_D24_14 (io), W24 IO_L20N_T3_A07_D23_14 (io), W25 VCCO_14 (power), W26 IO_L18N_T2_A11_D27_14 (io)
part E pins: H29 IO_L7N_T1_AD10N_15 (io), J21 IO_L5P_T0_AD2P_15 (io), J22 IO_L5N_T0_AD2N_15 (io), J23 IO_L1P_T0_AD0P_15 (io), J24 IO_L1N_T0_AD0N_15 (io), J25 VCCO_15 (power), J26 IO_L10N_T1_AD4N_15 (io), J27 IO_L8P_T1_AD3P_15 (io), J28 IO_L8N_T1_AD3N_15 (io), J29 IO_L7P_T1_AD10P_15 (io), K21 IO_L4N_T0_AD9N_15 (io), K22 VCCO_15 (power), K23 IO_L3P_T0_DQS_AD1P_15 (io), K24 IO_L3N_T0_DQS_AD1N_15 (io), K25 IO_L12N_T1_MRCC_AD5N_15 (io), K26 IO_L10P_T1_AD4P_15 (io), K28 IO_L13P_T2_MRCC_15 (io), K29 IO_L13N_T2_MRCC_15 (io), K30 IO_L9N_T1_DQS_AD11N_15 (io), L20 IO_L6N_T0_VREF_15 (io), L21 IO_L4P_T0_AD9P_15 (io), L22 IO_L2P_T0_AD8P_15 (io), L23 IO_L2N_T0_AD8N_15 (io), L25 IO_L12P_T1_MRCC_AD5P_15 (io), L26 IO_L11P_T1_SRCC_AD12P_15 (io), L27 IO_L11N_T1_SRCC_AD12N_15 (io), L28 IO_L14N_T2_SRCC_15 (io), L29 VCCO_15 (power), L30 IO_L9P_T1_DQS_AD11P_15 (io), M19 IO_0_15 (io), M20 IO_L6P_T0_15 (io), M22 IO_L24P_T3_RS1_15 (io), M23 IO_L24N_T3_RS0_15 (io), M24 IO_L23P_T3_FOE_B_15 (io), M25 IO_L23N_T3_FWE_B_15 (io), M26 VCCO_15 (power), M27 IO_L16N_T2_A27_15 (io), M28 IO_L14P_T2_SRCC_15 (io), M29 IO_L15P_T2_DQS_15 (io), M30 IO_L15N_T2_DQS_ADV_B_15 (io), N19 IO_L19P_T3_A22_15 (io), N20 IO_L19N_T3_A21_VREF_15 (io), N21 IO_L20P_T3_A20_15 (io), N22 IO_L20N_T3_A19_15 (io), N23 VCCO_15 (power), N24 IO_L21N_T3_DQS_A18_15 (io), N25 IO_L18P_T2_A24_15 (io), N26 IO_L18N_T2_A23_15 (io), N27 IO_L16P_T2_A28_15 (io), N29 IO_L17P_T2_A26_15 (io), N30 IO_L17N_T2_A25_15 (io), P19 IO_25_15 (io), P20 VCCO_15 (power), P21 IO_L22P_T3_A17_15 (io), P22 IO_L22N_T3_A16_15 (io), P23 IO_L21P_T3_DQS_15 (io)
part F pins: A23 IO_L1N_T0_16 (io), A25 IO_L10P_T1_16 (io), A26 IO_L10N_T1_16 (io), A27 IO_L7N_T1_16 (io), A28 IO_L9N_T1_DQS_16 (io), A29 VCCO_16 (power), A30 IO_L17N_T2_16 (io), B23 IO_L1P_T0_16 (io), B24 IO_L8N_T1_16 (io), B25 IO_L12N_T1_MRCC_16 (io), B26 VCCO_16 (power), B27 IO_L7P_T1_16 (io), B28 IO_L9P_T1_DQS_16 (io), B29 IO_L15N_T2_DQS_16 (io), B30 IO_L17P_T2_16 (io), C23 VCCO_16 (power), C24 IO_L8P_T1_16 (io), C25 IO_L12P_T1_MRCC_16 (io), C26 IO_L11N_T1_SRCC_16 (io), C27 IO_L13N_T2_MRCC_16 (io), C29 IO_L15P_T2_DQS_16 (io), C30 IO_L16N_T2_16 (io), D23 IO_L2N_T0_16 (io), D24 IO_L4N_T0_16 (io), D26 IO_L11P_T1_SRCC_16 (io), D27 IO_L13P_T2_MRCC_16 (io), D28 IO_L14N_T2_SRCC_16 (io), D29 IO_L16P_T2_16 (io), D30 VCCO_16 (power), E23 IO_L2P_T0_16 (io), E24 IO_L4P_T0_16 (io), E25 IO_L3N_T0_DQS_16 (io), E26 IO_L5N_T0_16 (io), E27 VCCO_16 (power), E28 IO_L14P_T2_SRCC_16 (io), E29 IO_L18P_T2_16 (io), E30 IO_L18N_T2_16 (io), F23 IO_0_16 (io), F24 VCCO_16 (power), F25 IO_L3P_T0_DQS_16 (io), F26 IO_L5P_T0_16 (io), F27 IO_L21N_T3_DQS_16 (io), F28 IO_L20N_T3_16 (io), F30 IO_L22N_T3_16 (io), G23 IO_L6P_T0_16 (io), G24 IO_L6N_T0_VREF_16 (io), G25 IO_25_16 (io), G27 IO_L21P_T3_DQS_16 (io), G28 IO_L20P_T3_16 (io), G29 IO_L22P_T3_16 (io), G30 IO_L24N_T3_16 (io), H24 IO_L19P_T3_16 (io), H25 IO_L19N_T3_VREF_16 (io), H26 IO_L23P_T3_16 (io), H27 IO_L23N_T3_16 (io), H28 VCCO_16 (power), H30 IO_L24P_T3_16 (io)
part G pins: A16 IO_L20P_T3_17 (io), A17 IO_L20N_T3_17 (io), A18 IO_L22N_T3_17 (io), A19 VCCO_17 (power), A20 IO_L21P_T3_DQS_17 (io), A21 IO_L21N_T3_DQS_17 (io), A22 IO_L23N_T3_17 (io), B16 VCCO_17 (power), B17 IO_L17N_T2_17 (io), B18 IO_L22P_T3_17 (io), B19 IO_L24N_T3_17 (io), B20 IO_L19N_T3_VREF_17 (io), B22 IO_L23P_T3_17 (io), C16 IO_L15N_T2_DQS_17 (io), C17 IO_L17P_T2_17 (io), C19 IO_L24P_T3_17 (io), C20 IO_L19P_T3_17 (io), C21 IO_L8N_T1_17 (io), C22 IO_L10N_T1_17 (io), D16 IO_L15P_T2_DQS_17 (io), D17 IO_L13P_T2_MRCC_17 (io), D18 IO_L13N_T2_MRCC_17 (io), D19 IO_L14N_T2_SRCC_17 (io), D20 VCCO_17 (power), D21 IO_L8P_T1_17 (io), D22 IO_L10P_T1_17 (io), E17 VCCO_17 (power), E18 IO_25_17 (io), E19 IO_L14P_T2_SRCC_17 (io), E20 IO_L12N_T1_MRCC_17 (io), E21 IO_L11N_T1_SRCC_17 (io), F17 IO_L18N_T2_17 (io), F18 IO_L16N_T2_17 (io), F20 IO_L12P_T1_MRCC_17 (io), F21 IO_L11P_T1_SRCC_17 (io), F22 IO_L9N_T1_DQS_17 (io), G17 IO_L18P_T2_17 (io), G18 IO_L16P_T2_17 (io), G19 IO_0_17 (io), G20 IO_L2N_T0_17 (io), G21 VCCO_17 (power), G22 IO_L9P_T1_DQS_17 (io), H17 IO_L3N_T0_DQS_17 (io), H18 VCCO_17 (power), H19 IO_L4N_T0_17 (io), H20 IO_L2P_T0_17 (io), H21 IO_L7P_T1_17 (io), H22 IO_L7N_T1_17 (io), J17 IO_L3P_T0_DQS_17 (io), J18 IO_L1N_T0_17 (io), J19 IO_L4P_T0_17 (io), K18 IO_L1P_T0_17 (io), K19 IO_L6P_T0_17 (io), K20 IO_L6N_T0_VREF_17 (io), L17 IO_L5P_T0_17 (io), L18 IO_L5N_T0_17 (io), L19 VCCO_17 (power)
part H pins: A11 IO_L17P_T2_18 (io), A12 IO_L17N_T2_18 (io), A13 IO_L22N_T3_18 (io), A15 IO_L24N_T3_18 (io), B12 IO_L15N_T2_DQS_18 (io), B13 IO_L22P_T3_18 (io), B14 IO_L24P_T3_18 (io), B15 IO_L23N_T3_18 (io), C11 IO_L18N_T2_18 (io), C12 IO_L15P_T2_DQS_18 (io), C13 VCCO_18 (power), C14 IO_L21N_T3_DQS_18 (io), C15 IO_L23P_T3_18 (io), D10 VCCO_18 (power), D11 IO_L18P_T2_18 (io), D12 IO_L13P_T2_MRCC_18 (io), D13 IO_L13N_T2_MRCC_18 (io), D14 IO_L21P_T3_DQS_18 (io), E11 IO_L16N_T2_18 (io), E13 IO_L14N_T2_SRCC_18 (io), E14 IO_L20P_T3_18 (io), E15 IO_L20N_T3_18 (io), E16 IO_L19N_T3_VREF_18 (io), F11 IO_L16P_T2_18 (io), F12 IO_L14P_T2_SRCC_18 (io), F13 IO_L12N_T1_MRCC_18 (io), F14 VCCO_18 (power), F15 IO_L19P_T3_18 (io), F16 IO_25_18 (io), G11 VCCO_18 (power), G12 IO_0_18 (io), G13 IO_L12P_T1_MRCC_18 (io), G14 IO_L11N_T1_SRCC_18 (io), G15 IO_L7N_T1_18 (io), H11 IO_L10P_T1_18 (io), H12 IO_L10N_T1_18 (io), H14 IO_L11P_T1_SRCC_18 (io), H15 IO_L7P_T1_18 (io), H16 IO_L9N_T1_DQS_18 (io), J11 IO_L8P_T1_18 (io), J12 IO_L8N_T1_18 (io), J13 IO_L4N_T0_18 (io), J14 IO_L5N_T0_18 (io), J15 VCCO_18 (power), J16 IO_L9P_T1_DQS_18 (io), K11 IO_L6N_T0_VREF_18 (io), K12 VCCO_18 (power), K13 IO_L4P_T0_18 (io), K14 IO_L5P_T0_18 (io), K15 IO_L2N_T0_18 (io), K16 IO_L1N_T0_18 (io), L11 IO_L6P_T0_18 (io), L12 IO_L3P_T0_DQS_18 (io), L13 IO_L3N_T0_DQS_18 (io), L15 IO_L2P_T0_18 (io), L16 IO_L1P_T0_18 (io)
part I pins: AA15 IO_L20P_T3_32 (io), AA16 IO_L23N_T3_32 (io), AA17 IO_L23P_T3_32 (io), AA18 IO_L16P_T2_32 (io), AA19 VCCO_32 (power), AB14 IO_25_VRP_32 (io), AB15 IO_L20N_T3_32 (io), AB16 VCCO_32 (power), AB17 IO_L18P_T2_32 (io), AB18 IO_L16N_T2_32 (io), AB19 IO_L17P_T2_32 (io), AC14 IO_L22P_T3_32 (io), AC15 IO_L21N_T3_DQS_32 (io), AC16 IO_L21P_T3_DQS_32 (io), AC17 IO_L18N_T2_32 (io), AC19 IO_L17N_T2_32 (io), AD14 IO_L22N_T3_32 (io), AD16 IO_L14N_T2_SRCC_32 (io), AD17 IO_L14P_T2_SRCC_32 (io), AD18 IO_L13P_T2_MRCC_32 (io), AD19 IO_L10P_T1_32 (io), AE14 IO_L19N_T3_VREF_32 (io), AE15 IO_L19P_T3_32 (io), AE16 IO_L6P_T0_32 (io), AE17 VCCO_32 (power), AE18 IO_L13N_T2_MRCC_32 (io), AE19 IO_L10N_T1_32 (io), AF14 VCCO_32 (power), AF15 IO_L4P_T0_32 (io), AF16 IO_L6N_T0_VREF_32 (io), AF17 IO_L12P_T1_MRCC_32 (io), AF18 IO_L11P_T1_SRCC_32 (io), AG14 IO_L4N_T0_32 (io), AG15 IO_L2P_T0_32 (io), AG17 IO_L12N_T1_MRCC_32 (io), AG18 IO_L11N_T1_SRCC_32 (io), AG19 IO_L8P_T1_32 (io), AH15 IO_L2N_T0_32 (io), AH16 IO_L3P_T0_DQS_32 (io), AH17 IO_L5P_T0_32 (io), AH18 VCCO_32 (power), AH19 IO_L8N_T1_32 (io), AJ15 VCCO_32 (power), AJ16 IO_L3N_T0_DQS_32 (io), AJ17 IO_L5N_T0_32 (io), AJ18 IO_L9P_T1_DQS_32 (io), AJ19 IO_L7P_T1_32 (io), AK15 IO_L1N_T0_32 (io), AK16 IO_L1P_T0_32 (io), AK18 IO_L9N_T1_DQS_32 (io), AK19 IO_L7N_T1_32 (io), Y14 IO_0_VRN_32 (io), Y15 IO_L24N_T3_32 (io), Y16 IO_L24P_T3_32 (io), Y18 IO_L15N_T2_DQS_32 (io), Y19 IO_L15P_T2_DQS_32 (io)
part J pins: AA8 IO_L2P_T0_33 (io), AA9 VCCO_33 (power), AA10 IO_L5N_T0_33 (io), AA11 IO_L5P_T0_33 (io), AA12 IO_L1P_T0_33 (io), AA13 IO_L6P_T0_33 (io), AB8 IO_L2N_T0_33 (io), AB9 IO_L3P_T0_DQS_33 (io), AB10 IO_L7P_T1_33 (io), AB12 IO_L1N_T0_33 (io), AB13 IO_L6N_T0_VREF_33 (io), AC9 IO_L3N_T0_DQS_33 (io), AC10 IO_L7N_T1_33 (io), AC11 IO_L9N_T1_DQS_33 (io), AC12 IO_L9P_T1_DQS_33 (io), AC13 VCCO_33 (power), AD8 IO_L8P_T1_33 (io), AD9 IO_L10P_T1_33 (io), AD10 VCCO_33 (power), AD11 IO_L12N_T1_MRCC_33 (io), AD12 IO_L12P_T1_MRCC_33 (io), AD13 IO_25_VRP_33 (io), AE8 IO_L8N_T1_33 (io), AE9 IO_L10N_T1_33 (io), AE10 IO_L14P_T2_SRCC_33 (io), AE11 IO_L11P_T1_SRCC_33 (io), AE13 IO_L19P_T3_33 (io), AF10 IO_L14N_T2_SRCC_33 (io), AF11 IO_L11N_T1_SRCC_33 (io), AF12 IO_L23P_T3_33 (io), AF13 IO_L19N_T3_VREF_33 (io), AG9 IO_L16P_T2_33 (io), AG10 IO_L13P_T2_MRCC_33 (io), AG11 VCCO_33 (power), AG12 IO_L23N_T3_33 (io), AG13 IO_L24P_T3_33 (io), AH9 IO_L16N_T2_33 (io), AH10 IO_L13N_T2_MRCC_33 (io), AH11 IO_L18P_T2_33 (io), AH12 IO_L24N_T3_33 (io), AH14 IO_L21P_T3_DQS_33 (io), AJ9 IO_L15P_T2_DQS_33 (io), AJ11 IO_L18N_T2_33 (io), AJ12 IO_L22N_T3_33 (io), AJ13 IO_L22P_T3_33 (io), AJ14 IO_L21N_T3_DQS_33 (io), AK9 IO_L15N_T2_DQS_33 (io), AK10 IO_L17N_T2_33 (io), AK11 IO_L17P_T2_33 (io), AK12 VCCO_33 (power), AK13 IO_L20N_T3_33 (io), AK14 IO_L20P_T3_33 (io), Y10 IO_L4N_T0_33 (io), Y11 IO_L4P_T0_33 (io), Y12 VCCO_33 (power), Y13 IO_0_VRN_33 (io)
part K pins: AB7 IO_25_VRP_34 (io), AC1 IO_L2N_T0_34 (io), AC2 IO_L2P_T0_34 (io), AC3 VCCO_34 (power), AC4 IO_L4N_T0_34 (io), AC5 IO_L4P_T0_34 (io), AC6 IO_0_VRN_34 (io), AC7 IO_L6P_T0_34 (io), AD1 IO_L3N_T0_DQS_34 (io), AD2 IO_L3P_T0_DQS_34 (io), AD3 IO_L1N_T0_34 (io), AD4 IO_L1P_T0_34 (io), AD6 IO_L5P_T0_34 (io), AD7 IO_L6N_T0_VREF_34 (io), AE1 IO_L8P_T1_34 (io), AE3 IO_L10N_T1_34 (io), AE4 IO_L10P_T1_34 (io), AE5 IO_L11P_T1_SRCC_34 (io), AE6 IO_L5N_T0_34 (io), AE7 VCCO_34 (power), AF1 IO_L8N_T1_34 (io), AF2 IO_L7N_T1_34 (io), AF3 IO_L7P_T1_34 (io), AF4 VCCO_34 (power), AF5 IO_L11N_T1_SRCC_34 (io), AF6 IO_L12P_T1_MRCC_34 (io), AF7 IO_L20P_T3_34 (io), AF8 IO_L19P_T3_34 (io), AG1 VCCO_34 (power), AG2 IO_L15P_T2_DQS_34 (io), AG3 IO_L9N_T1_DQS_34 (io), AG4 IO_L9P_T1_DQS_34 (io), AG5 IO_L12N_T1_MRCC_34 (io), AG7 IO_L20N_T3_34 (io), AG8 IO_L19N_T3_VREF_34 (io), AH1 IO_L15N_T2_DQS_34 (io), AH2 IO_L16P_T2_34 (io), AH4 IO_L13P_T2_MRCC_34 (io), AH5 IO_L14N_T2_SRCC_34 (io), AH6 IO_L14P_T2_SRCC_34 (io), AH7 IO_L21P_T3_DQS_34 (io), AH8 VCCO_34 (power), AJ1 IO_L17P_T2_34 (io), AJ2 IO_L16N_T2_34 (io), AJ3 IO_L18P_T2_34 (io), AJ4 IO_L13N_T2_MRCC_34 (io), AJ5 VCCO_34 (power), AJ6 IO_L22P_T3_34 (io), AJ7 IO_L21N_T3_DQS_34 (io), AJ8 IO_L23P_T3_34 (io), AK1 IO_L17N_T2_34 (io), AK2 VCCO_34 (power), AK3 IO_L18N_T2_34 (io), AK4 IO_L24N_T3_34 (io), AK5 IO_L24P_T3_34 (io), AK6 IO_L22N_T3_34 (io), AK8 IO_L23N_T3_34 (io)
part L pins: AA3 MGTXRXN0_115 (io), AA4 MGTXRXP0_115 (io), R7 MGTREFCLK0N_115 (io), R8 MGTREFCLK0P_115 (io), T1 MGTXTXN3_115 (io), T2 MGTXTXP3_115 (io), U3 MGTXTXN2_115 (io), U4 MGTXTXP2_115 (io), U7 MGTREFCLK1N_115 (io), U8 MGTREFCLK1P_115 (io), V1 MGTXTXN1_115 (io), V2 MGTXTXP1_115 (io), V5 MGTXRXN3_115 (io), V6 MGTXRXP3_115 (io), W3 MGTXRXN2_115 (io), W4 MGTXRXP2_115 (io), W7 MGTAVTTRCAL_115, W8 MGTRREF_115, Y1 MGTXTXN0_115 (io), Y2 MGTXTXP0_115 (io), Y5 MGTXRXN1_115 (io), Y6 MGTXRXP1_115 (io)
part M pins: L3 MGTXTXN3_116 (io), L4 MGTXTXP3_116 (io), L7 MGTREFCLK0N_116 (io), L8 MGTREFCLK0P_116 (io), M1 MGTXTXN2_116 (io), M2 MGTXTXP2_116 (io), M5 MGTXRXN3_116 (io), M6 MGTXRXP3_116 (io), N3 MGTXTXN1_116 (io), N4 MGTXTXP1_116 (io), N7 MGTREFCLK1N_116 (io), N8 MGTREFCLK1P_116 (io), P1 MGTXTXN0_116 (io), P2 MGTXTXP0_116 (io), P5 MGTXRXN2_116 (io), P6 MGTXRXP2_116 (io), R3 MGTXRXN1_116 (io), R4 MGTXRXP1_116 (io), T5 MGTXRXN0_116 (io), T6 MGTXRXP0_116 (io)
part N pins: F1 MGTXTXN3_117 (io), F2 MGTXTXP3_117 (io), F5 MGTXRXN3_117 (io), F6 MGTXRXP3_117 (io), G3 MGTXRXN2_117 (io), G4 MGTXRXP2_117 (io), G7 MGTREFCLK0N_117 (io), G8 MGTREFCLK0P_117 (io), H1 MGTXTXN2_117 (io), H2 MGTXTXP2_117 (io), H5 MGTXRXN1_117 (io), H6 MGTXRXP1_117 (io), J3 MGTXTXN1_117 (io), J4 MGTXTXP1_117 (io), J7 MGTREFCLK1N_117 (io), J8 MGTREFCLK1P_117 (io), K1 MGTXTXN0_117 (io), K2 MGTXTXP0_117 (io), K5 MGTXRXN0_117 (io), K6 MGTXRXP0_117 (io)
part O pins: A3 MGTXTXN3_118 (io), A4 MGTXTXP3_118 (io), A7 MGTXRXN3_118 (io), A8 MGTXRXP3_118 (io), B1 MGTXTXN2_118 (io), B2 MGTXTXP2_118 (io), B5 MGTXRXN2_118 (io), B6 MGTXRXP2_118 (io), C3 MGTXTXN1_118 (io), C4 MGTXTXP1_118 (io), C7 MGTREFCLK0N_118 (io), C8 MGTREFCLK0P_118 (io), D1 MGTXTXN0_118 (io), D2 MGTXTXP0_118 (io), D5 MGTXRXN1_118 (io), D6 MGTXRXP1_118 (io), E3 MGTXRXN0_118 (io), E4 MGTXRXP0_118 (io), E7 MGTREFCLK1N_118 (io), E8 MGTREFCLK1P_118 (io)
part P pins: B3 MGTAVTT_B3, B7 MGTAVCC_B7, C5 MGTAVTT_C5, D3 MGTAVTT_D3, D7 MGTAVCC_D7, E5 MGTAVTT_E5, F3 MGTAVTT_F3, F7 MGTAVCC_F7, G5 MGTAVTT_G5, H3 MGTAVTT_H3, H7 MGTAVCC_H7, J5 MGTAVTT_J5, K3 MGTAVTT_K3, K7 MGTAVCC_K7, L5 MGTAVTT_L5, M3 MGTAVTT_M3, M7 MGTAVCC_M7, M11 VCCINT_M11, M13 VCCINT_M13, M15 VCCINT_M15, M17 VCCINT_M17, N5 MGTAVTT_N5, N10 VCCINT_N10, N12 VCCINT_N12, N14 VCCINT_N14, N16 VCCBRAM_N16, N18 VCCINT_N18, P3 MGTAVTT_P3, P7 MGTAVCC_P7, P11 VCCINT_P11, P13 VCCAUX_P13, P17 VCCINT_P17, R5 MGTAVTT_R5, R10 VCCINT_R10, R12 VCCINT_R12, R16 VCCBRAM_R16, R18 VCCINT_R18, T3 MGTAVTT_T3, T7 MGTVCCAUX_T7, T11 VCCINT_T11, T13 VCCAUX_T13, T17 VCCINT_T17, U5 MGTAVTT_U5, U10 VCCINT_U10, U12 VCCINT_U12, U16 VCCBRAM_U16, U18 VCCINT_U18, V3 MGTAVTT_V3, V7 MGTVCCAUX_V7, V11 VCCAUX_IO_G0_V11, V13 VCCAUX_V13, V15 VCCAUX_V15, V17 VCCINT_V17, W5 MGTAVTT_W5, W10 VCCAUX_IO_G0_W10, W12 VCCAUX_IO_G0_W12, W14 VCCAUX_W14, W16 VCCBRAM_W16, W18 VCCINT_W18
part Q pins: A1 GND, A2 GND, A5 GND, A6 GND, A9 GND, A14 GND, A24 GND, AA1 GND, AA2 GND, AA5 GND, AA6 GND, AA7 GND, AA14 GND, AA24 GND, AB3 GND, AB4 GND, AB11 GND, AB21 GND, AC8 GND, AC18 GND, AC28 GND, AD5 GND, AD15 GND, AD25 GND, AE2 GND, AE12 GND, AE22 GND, AF9 GND, AF19 GND, AF29 GND, AG6 GND, AG16 GND, AG26 GND, AH3 GND, AH13 GND, AH23 GND, AJ10 GND, AJ20 GND, AJ30 GND, AK7 GND, AK17 GND, AK27 GND, B4 GND, B8 GND, B9 GND, B11 GND, B21 GND, C1 GND, C2 GND, C6 GND, C9 GND, C18 GND, C28 GND, D4 GND, D8 GND, D9 GND, D15 GND, D25 GND, E1 GND, E2 GND, E6 GND, E9 GND, E12 GND, E22 GND, F4 GND, F8 GND, F9 GND, F19 GND, F29 GND, G1 GND, G2 GND, G6 GND, G9 GND, G16 GND, G26 GND, H4 GND, H8 GND, H9 GND, H13 GND, H23 GND, J1 GND, J2 GND, J6 GND, J9 GND, J10 GND, J20 GND, J30 GND, K4 GND, K8 GND, K9 GND, K17 GND, K27 GND, L1 GND, L2 GND, L6 GND, L9 GND, L14 GND, L24 GND, M4 GND, M8 GND, M9 GND, M12 GND, M14 GND, M16 GND, M18 GND, M21 GND, N1 GND, N2 GND, N6 GND, N9 GND, N11 GND, N13 GND, N15 GND, N17 GND, N28 GND, P4 GND, P8 GND, P9 GND, P10 GND, P12 GND, P16 GND, P18 GND, P25 GND, R1 GND, R2 GND, R6 GND, R9 GND, R11 GND, R13 GND, R17 GND, R22 GND, T4 GND, T8 GND, T10 GND, T12 GND, T16 GND, T18 GND, T19 GND, T29 GND, U1 GND, U2 GND, U6 GND, U9 GND, U11 GND, U13 GND, U17 GND, U26 GND, V4 GND, V8 GND, V9 GND, V10 GND, V12 GND, V14 GND, V16 GND, V18 GND, V23 GND, W1 GND, W2 GND, W6 GND, W9 GND, W11 GND, W13 GND, W15 GND, W17 GND, W20 GND, W30 GND, Y3 GND, Y4 GND, Y7 GND, Y8 GND, Y9 GND, Y17 GND, Y27 GND
part A text: XC7K410T-FBG/FFG900; Bank0
part B text: XC7K410T-FBG/FFG900; Bank12
part C text: XC7K410T-FBG/FFG900; Bank13
part D text: XC7K410T-FBG/FFG900; Bank14
part E text: XC7K410T-FBG/FFG900; Bank15
part F text: XC7K410T-FBG/FFG900; Bank16
part G text: XC7K410T-FBG/FFG900; Bank17
part H text: XC7K410T-FBG/FFG900; Bank18
part I text: XC7K410T-FBG/FFG900; Bank32; HP
part J text: XC7K325T_NFBG/FFG900; Bank33; HP
part K text: XC7K410T-FBG/FFG900; Bank34; HP
part L text: XC7K410T-FBG/FFG900; Bank115
part M text: XC7K410T-FBG/FFG900; Bank116
part N text: XC7K410T-FBG/FFG900; Bank117
part O text: XC7K410T-FBG/FFG900; Bank118
part P text: XC7K410T-FBG/FFG900; PWR
part Q text: XC7K410T-FBG/FFG900; GND PINS

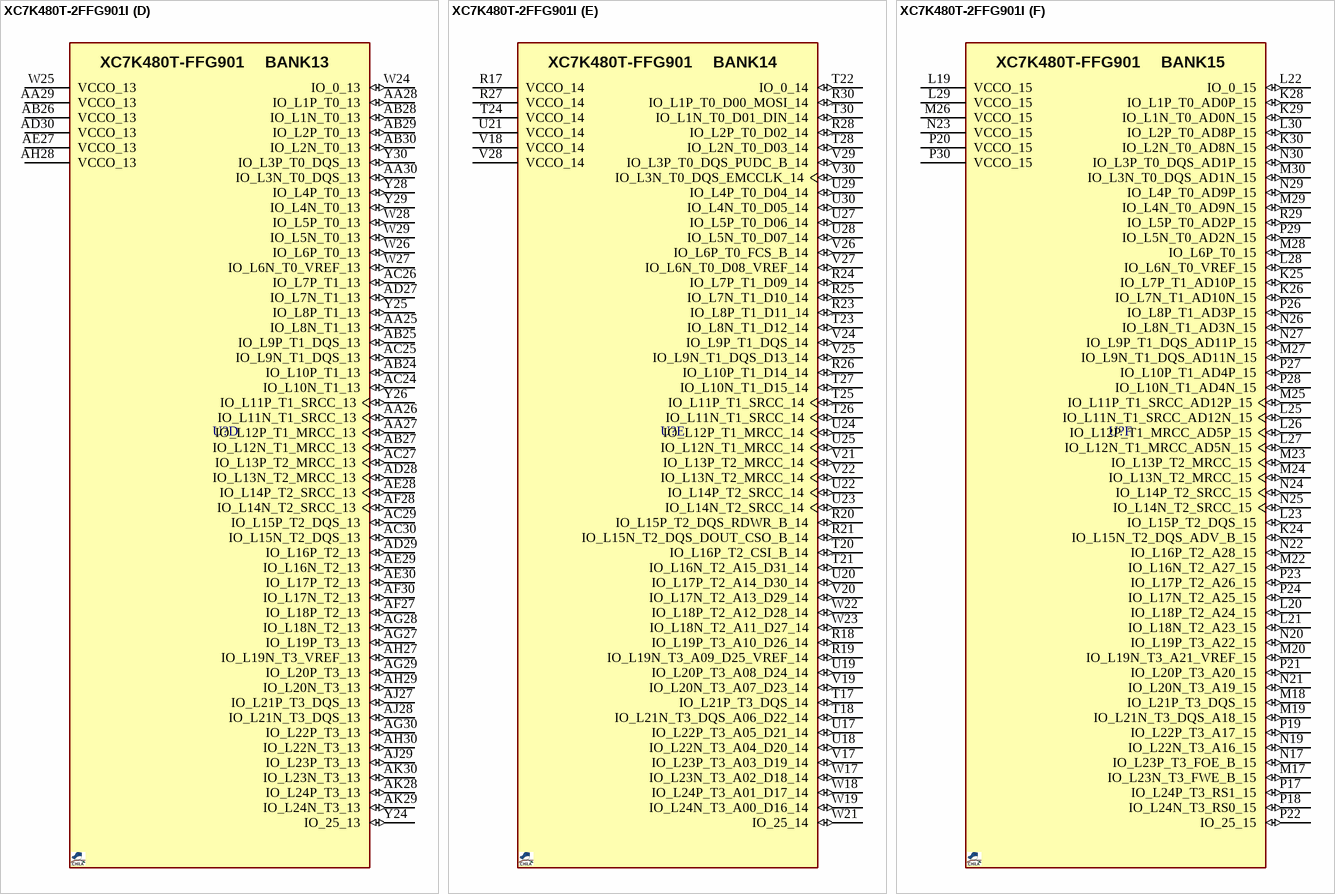
[diagram p31: symbol XC7K480T-2FFG901I]

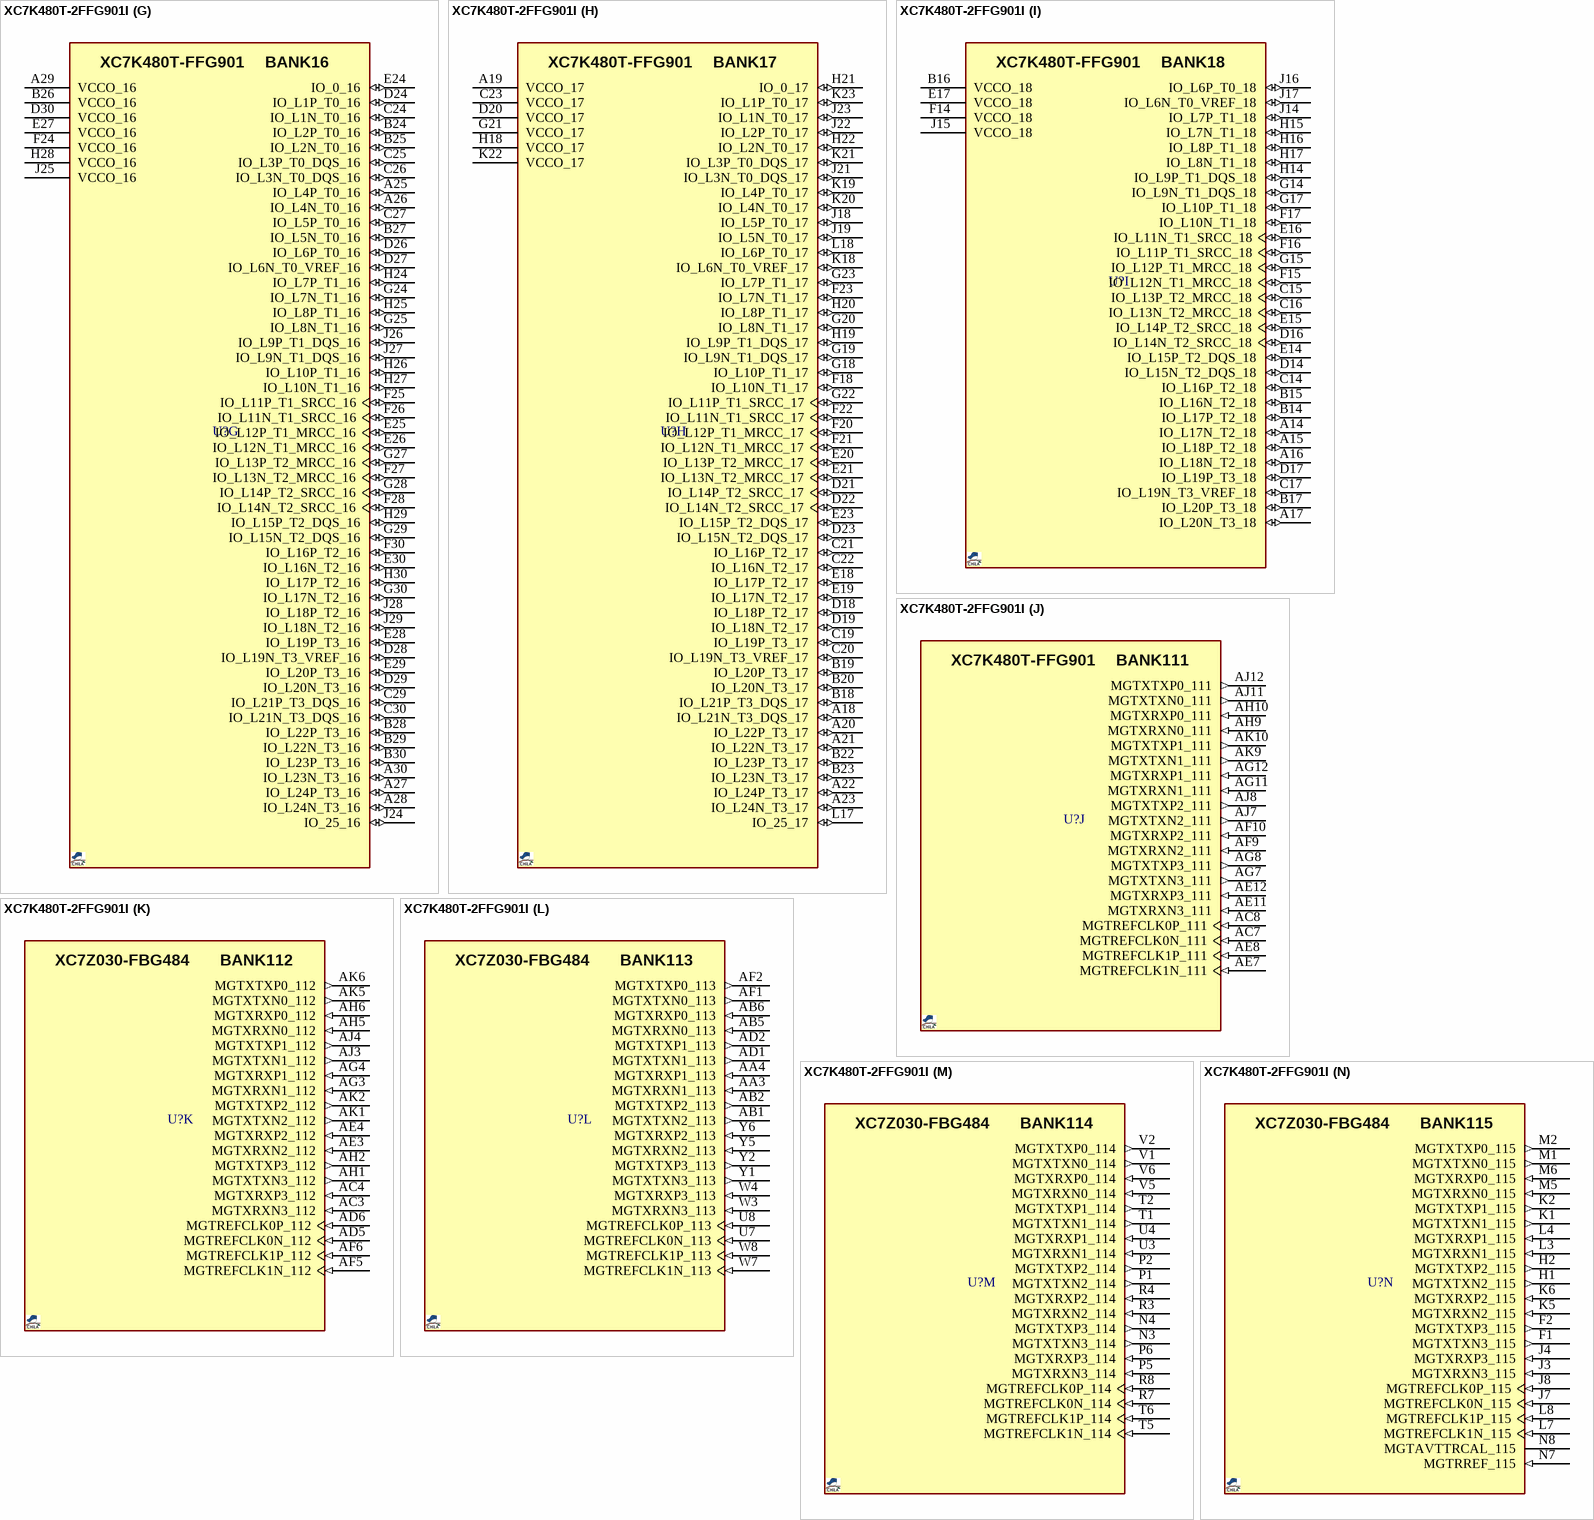
[diagram p32: symbol XC7K480T-2FFG901I]

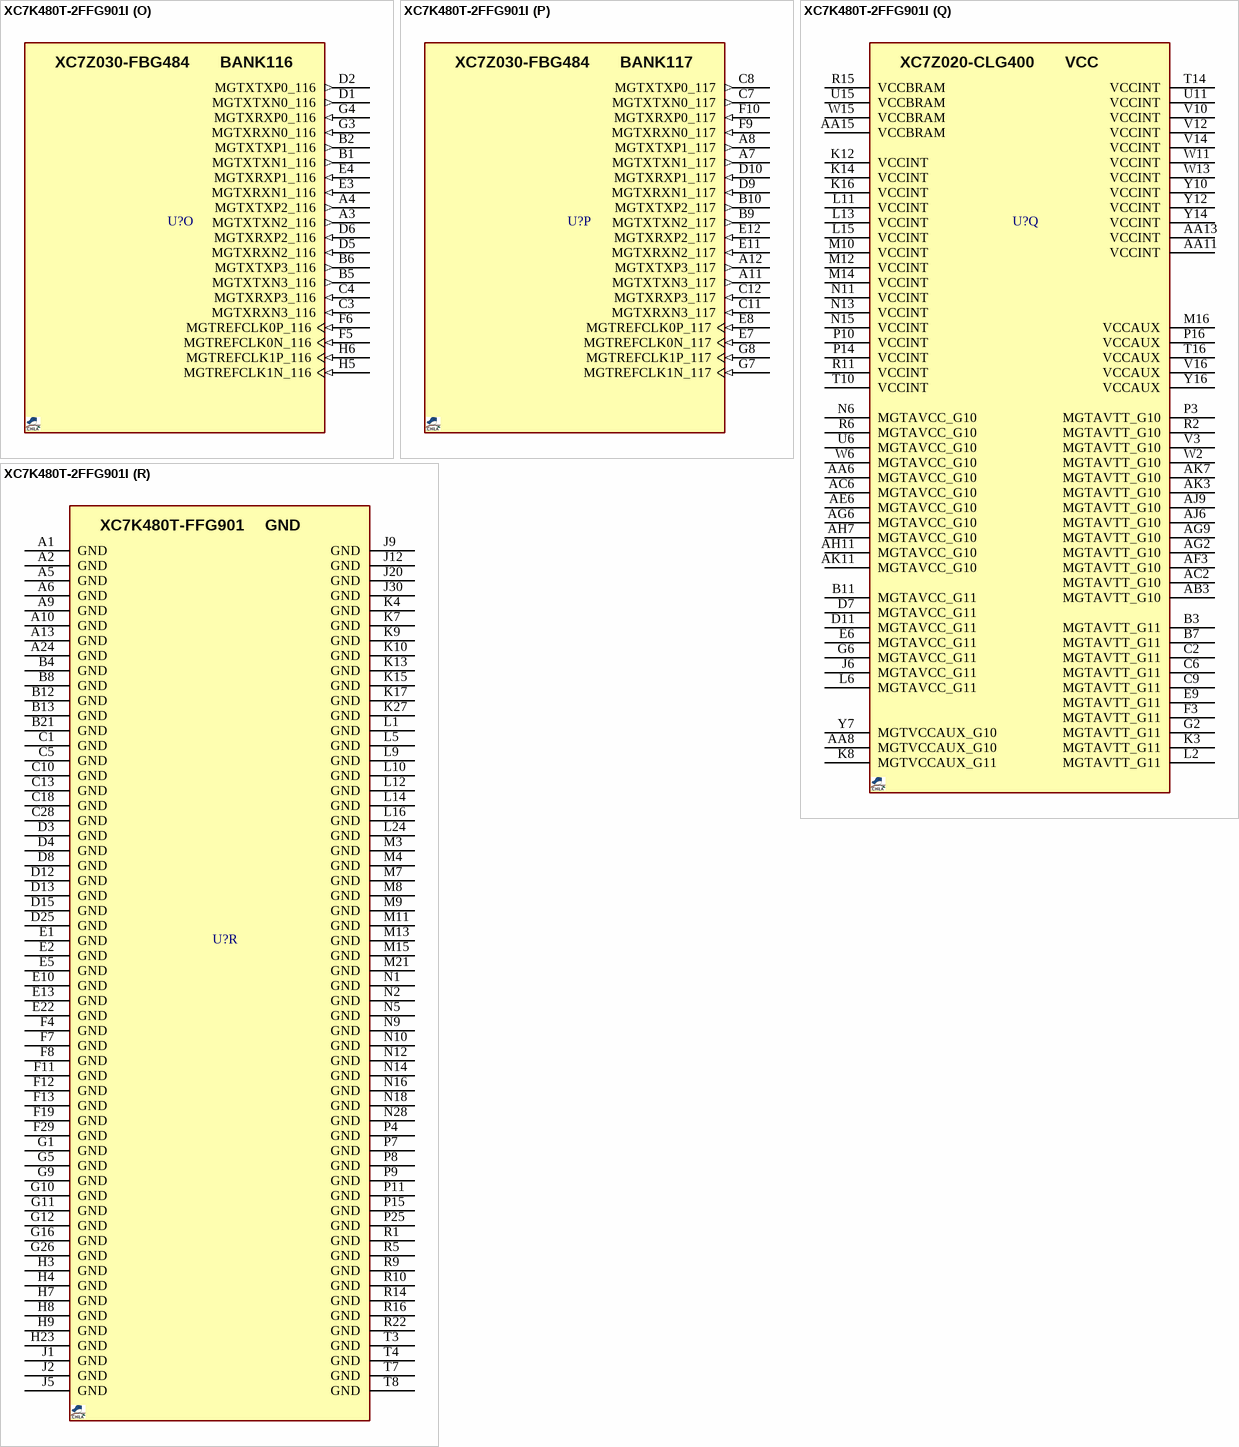
[diagram p33: symbol XC7K480T-2FFG901I]

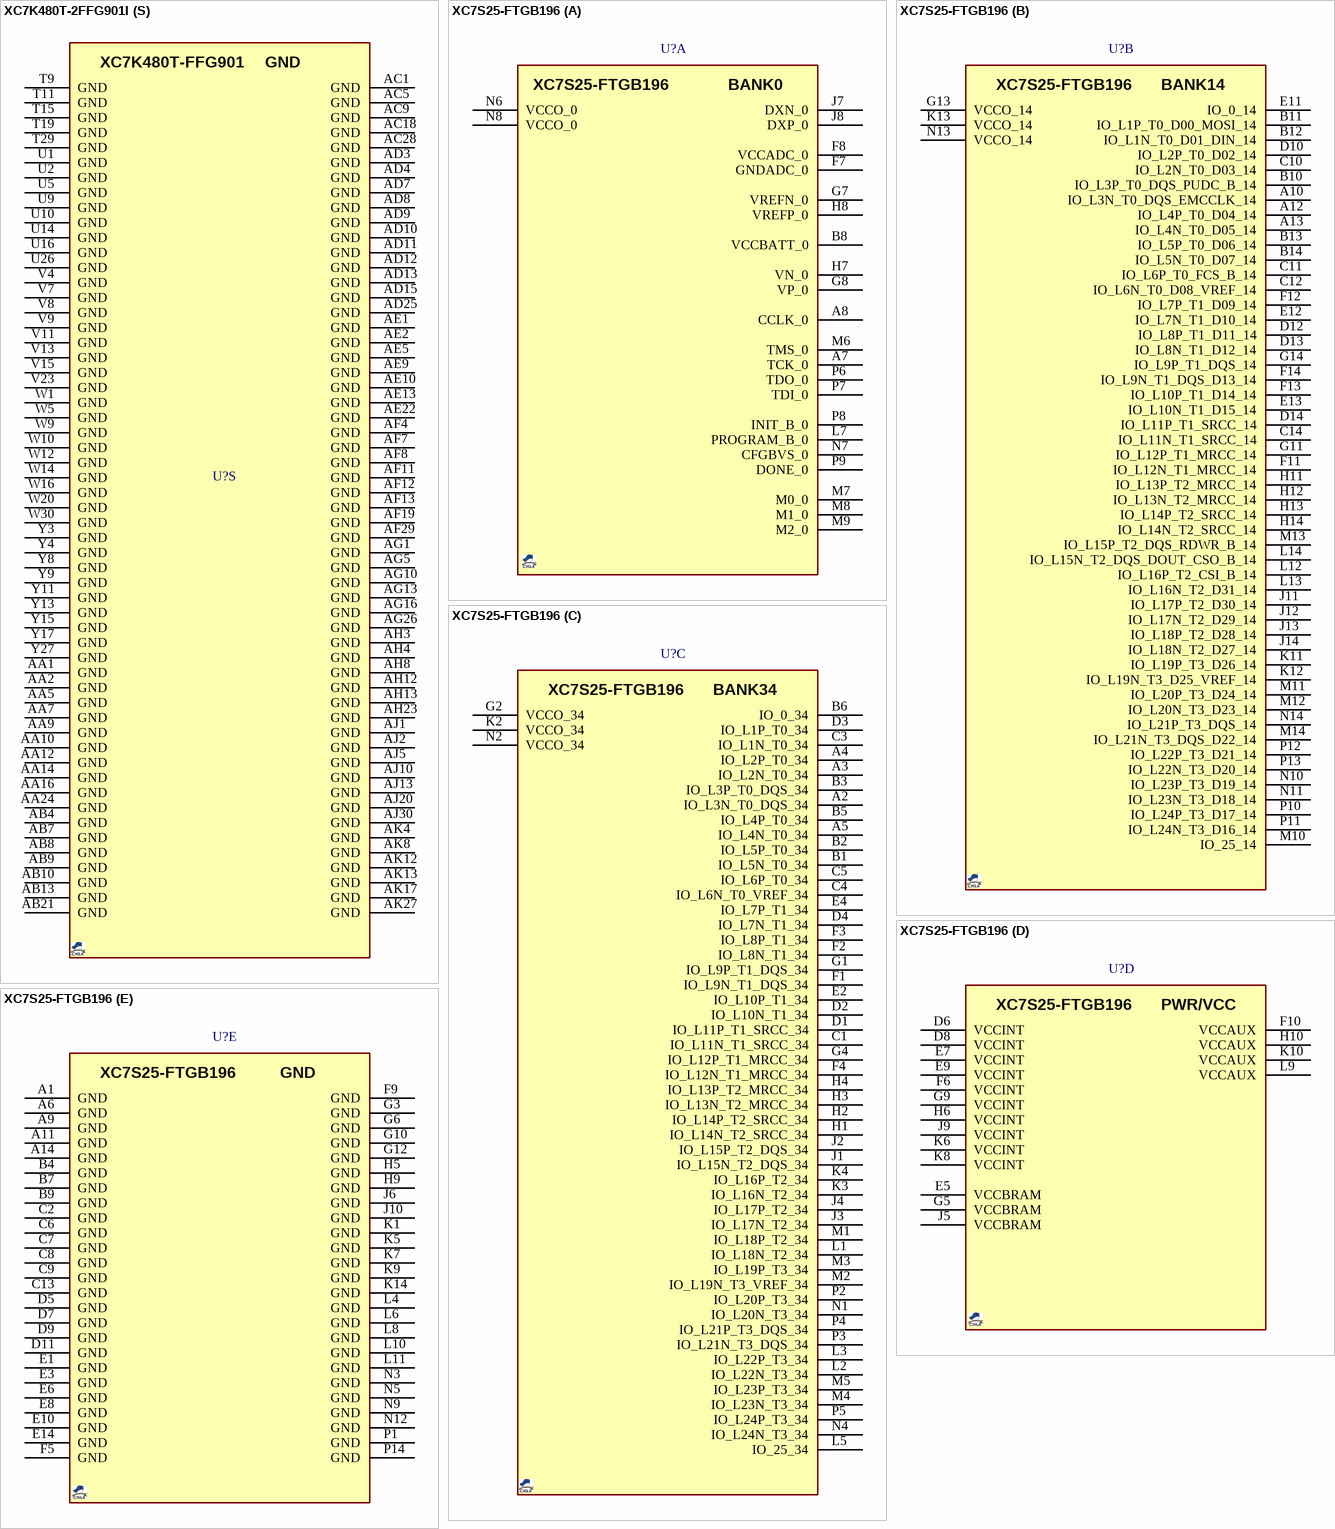
[diagram p34: symbols XC7K480T-2FFG901I to XC7S25-FTGB196]